# Altium integrated library Xilinx Spartan-3E.IntLib: 220 symbols (part 4 of 28)
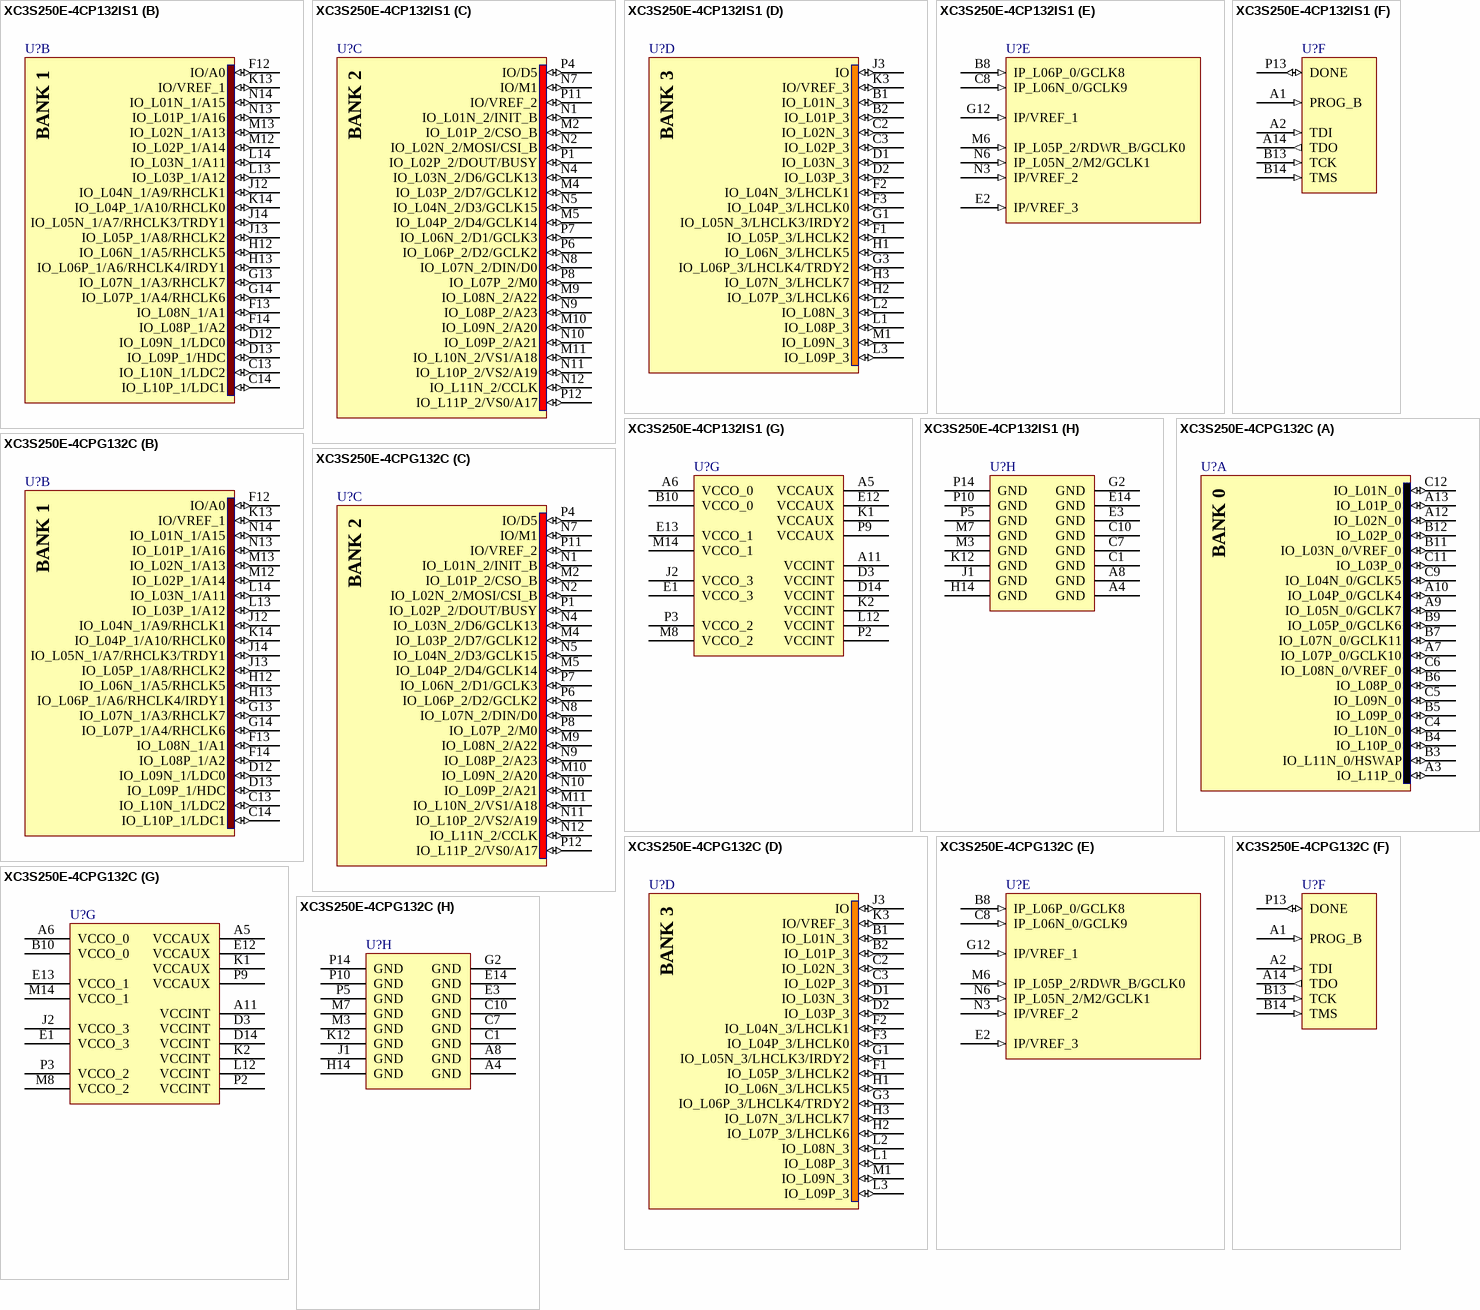
[diagram p197: symbols XC3S250E-4CP132IS1 to XC3S250E-4CPG132C]

## XC3S250E-4CPG132C
designator U?
Spartan-3E 1.2V FPGA, 92 User I/Os, 132-Ball Pb-Free Chip Scale BGA, Standard Performance, Commercial Grade; Published: 6-Jun-2005; LatestRevisionDate: 13-Apr-2006; LatestRevisionNote: IPC-7351 Footprint Added.; DatasheetVersion: 18-Apr-2008; PackageVersion: ver1.2, Jun-2004; PackageReference: CPG132; Publisher: Altium Limited; PackageDescription: 132-Ball Chip Scale Ball Grid Array 0.5 mm Pitch (CPG132) - Pb-Free; ComponentLink1Description: Manufacturer Link; ComponentLink1URL: http://www.xilinx.com/products/spartan3a/3a.htm; ComponentLink2Description: Datasheet; ComponentLink2URL: http://direct.xilinx.com/bvdocs/publications/ds312.pdf
footprint CPG132 (BGA, 132-Leads, Body 8x8mm, Pitch 0.5mm)
3D model XC3S250E-CP132 (132-Ball Chip Scale Ball Grid Array 0.5 mm Pitch (CPG132) - Pb-Free)
signal-integrity model XC3S250E_CPG132 (Spartan-3E)
part A pins: A3 IO_L11P_0 (io), A7 IO_L07P_0/GCLK10 (io), A9 IO_L05N_0/GCLK7 (io), A10 IO_L04P_0/GCLK4 (io), A12 IO_L02N_0 (io), A13 IO_L01P_0 (io), B3 IO_L11N_0/HSWAP (io), B4 IO_L10P_0 (io), B5 IO_L09P_0 (io), B6 IO_L08P_0 (io), B7 IO_L07N_0/GCLK11 (io), B9 IO_L05P_0/GCLK6 (io), B11 IO_L03N_0/VREF_0 (io), B12 IO_L02P_0 (io), C4 IO_L10N_0 (io), C5 IO_L09N_0 (io), C6 IO_L08N_0/VREF_0 (io), C9 IO_L04N_0/GCLK5 (io), C11 IO_L03P_0 (io), C12 IO_L01N_0 (io)
part B pins: C13 IO_L10N_1/LDC2 (io), C14 IO_L10P_1/LDC1 (io), D12 IO_L09N_1/LDC0 (io), D13 IO_L09P_1/HDC (io), F12 IO/A0 (io), F13 IO_L08N_1/A1 (io), F14 IO_L08P_1/A2 (io), G13 IO_L07N_1/A3/RHCLK7 (io), G14 IO_L07P_1/A4/RHCLK6 (io), H12 IO_L06N_1/A5/RHCLK5 (io), H13 IO_L06P_1/A6/RHCLK4/IRDY1 (io), J12 IO_L04N_1/A9/RHCLK1 (io), J13 IO_L05P_1/A8/RHCLK2 (io), J14 IO_L05N_1/A7/RHCLK3/TRDY1 (io), K13 IO/VREF_1 (io), K14 IO_L04P_1/A10/RHCLK0 (io), L13 IO_L03P_1/A12 (io), L14 IO_L03N_1/A11 (io), M12 IO_L02P_1/A14 (io), M13 IO_L02N_1/A13 (io), N13 IO_L01P_1/A16 (io), N14 IO_L01N_1/A15 (io)
part C pins: M2 IO_L01P_2/CSO_B (io), M4 IO_L03P_2/D7/GCLK12 (io), M5 IO_L04P_2/D4/GCLK14 (io), M9 IO_L08N_2/A22 (io), M10 IO_L09N_2/A20 (io), M11 IO_L10N_2/VS1/A18 (io), N1 IO_L01N_2/INIT_B (io), N2 IO_L02N_2/MOSI/CSI_B (io), N4 IO_L03N_2/D6/GCLK13 (io), N5 IO_L04N_2/D3/GCLK15 (io), N7 IO/M1 (io), N8 IO_L07N_2/DIN/D0 (io), N9 IO_L08P_2/A23 (io), N10 IO_L09P_2/A21 (io), N11 IO_L10P_2/VS2/A19 (io), N12 IO_L11N_2/CCLK (io), P1 IO_L02P_2/DOUT/BUSY (io), P4 IO/D5 (io), P6 IO_L06P_2/D2/GCLK2 (io), P7 IO_L06N_2/D1/GCLK3 (io), P8 IO_L07P_2/M0 (io), P11 IO/VREF_2 (io), P12 IO_L11P_2/VS0/A17 (io)
part D pins: B1 IO_L01N_3 (io), B2 IO_L01P_3 (io), C2 IO_L02N_3 (io), C3 IO_L02P_3 (io), D1 IO_L03N_3 (io), D2 IO_L03P_3 (io), F1 IO_L05P_3/LHCLK2 (io), F2 IO_L04N_3/LHCLK1 (io), F3 IO_L04P_3/LHCLK0 (io), G1 IO_L05N_3/LHCLK3/IRDY2 (io), G3 IO_L06P_3/LHCLK4/TRDY2 (io), H1 IO_L06N_3/LHCLK5 (io), H2 IO_L07P_3/LHCLK6 (io), H3 IO_L07N_3/LHCLK7 (io), J3 IO (io), K3 IO/VREF_3 (io), L1 IO_L08P_3 (io), L2 IO_L08N_3 (io), L3 IO_L09P_3 (io), M1 IO_L09N_3 (io)
part E pins: B8 IP_L06P_0/GCLK8 (in), C8 IP_L06N_0/GCLK9 (in), E2 IP/VREF_3 (in), G12 IP/VREF_1 (in), M6 IP_L05P_2/RDWR_B/GCLK0 (in), N3 IP/VREF_2 (in), N6 IP_L05N_2/M2/GCLK1 (in)
part F pins: A1 PROG_B (in), A2 TDI (in), A14 TDO (out), B13 TCK (in), B14 TMS (in), P13 DONE (io)
part G pins: A5 VCCAUX (power), A6 VCCO_0 (power), A11 VCCINT (power), B10 VCCO_0 (power), D3 VCCINT (power), D14 VCCINT (power), E1 VCCO_3 (power), E12 VCCAUX (power), E13 VCCO_1 (power), J2 VCCO_3 (power), K1 VCCAUX (power), K2 VCCINT (power), L12 VCCINT (power), M8 VCCO_2 (power), M14 VCCO_1 (power), P2 VCCINT (power), P3 VCCO_2 (power), P9 VCCAUX (power)
part H pins: A4 GND (power), A8 GND (power), C1 GND (power), C7 GND (power), C10 GND (power), E3 GND (power), E14 GND (power), G2 GND (power), H14 GND (power), J1 GND (power), K12 GND (power), M3 GND (power), M7 GND (power), P5 GND (power), P10 GND (power), P14 GND (power)
part A text: BANK 0
part B text: BANK 1
part C text: BANK 2
part D text: BANK 3

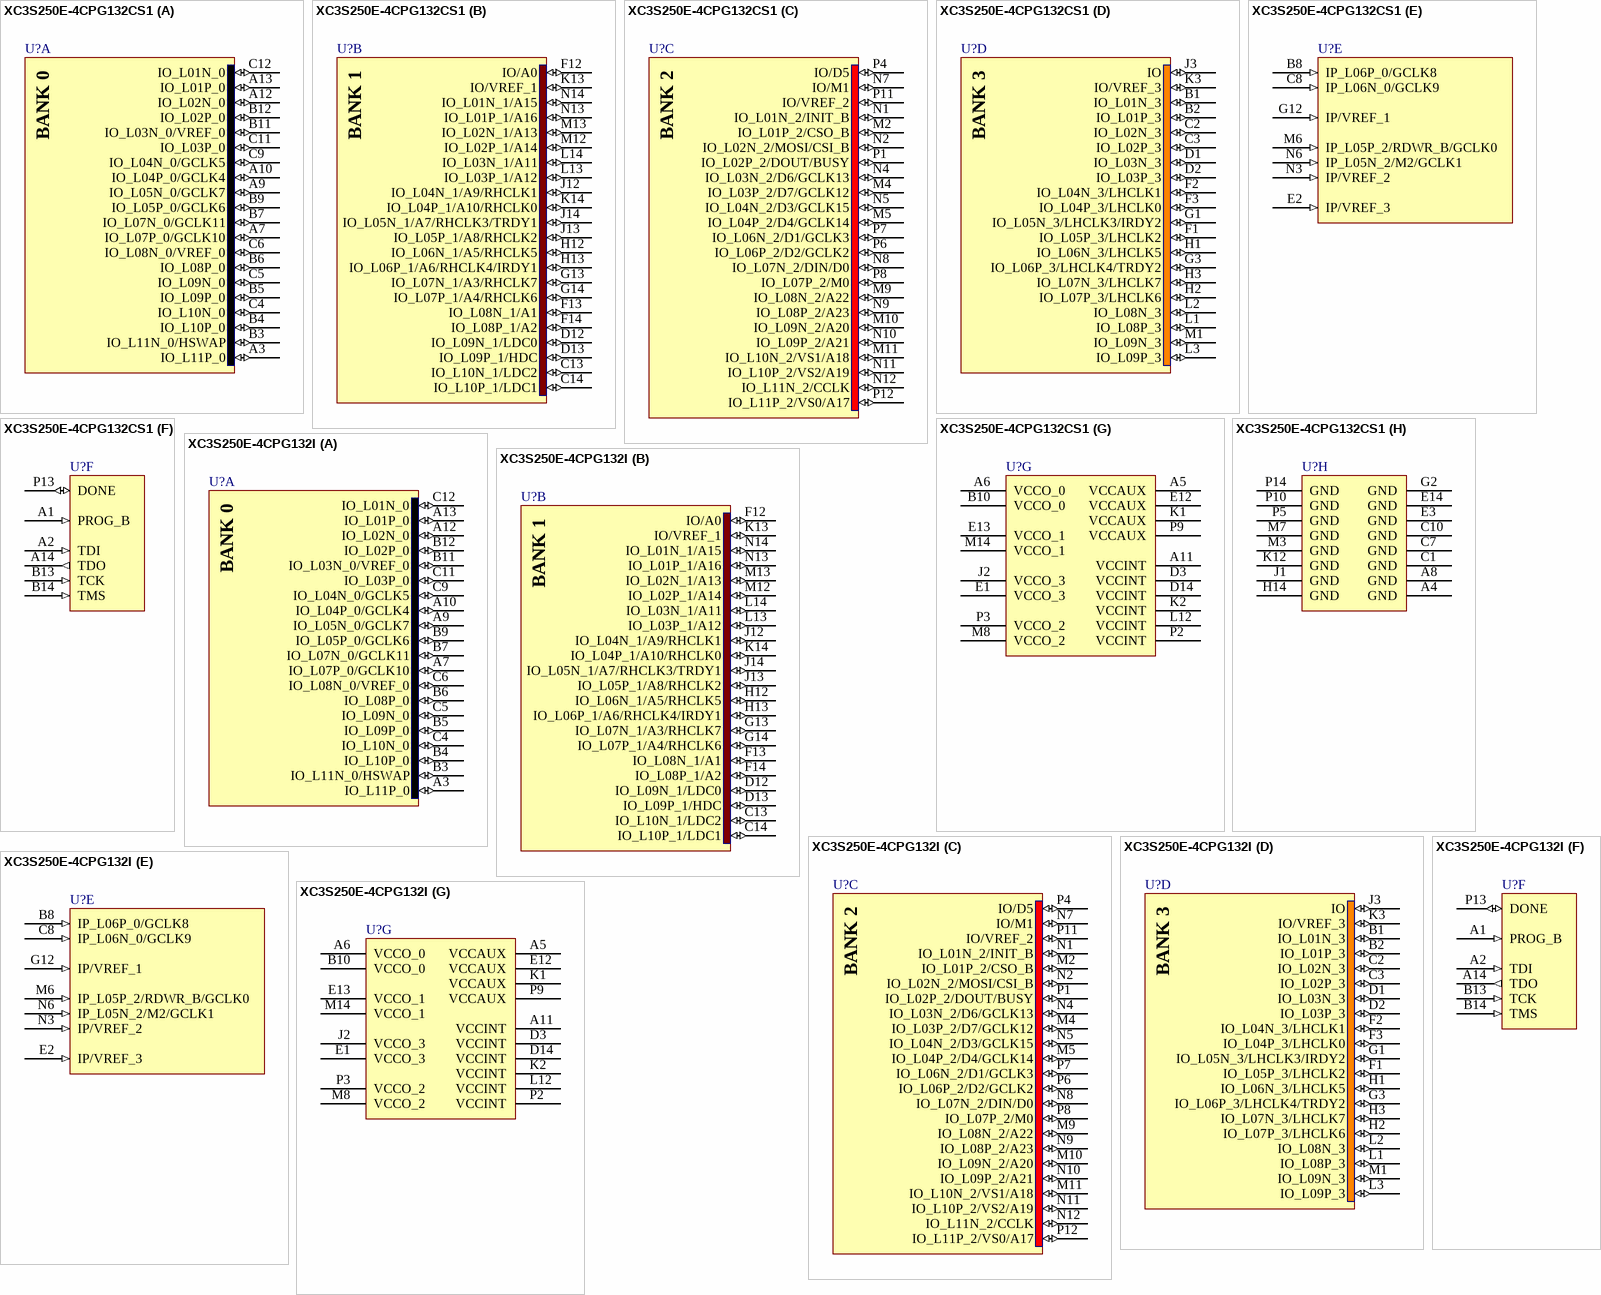
[diagram p19: symbols XC3S250E-4CPG132CS1 to XC3S250E-4CPG132I]

## XC3S250E-4CPG132CS1
designator U?
Spartan-3E 1.2V FPGA, 92 User I/Os, 132-Ball Pb-Free Chip Scale BGA, Standard Performance, Commercial Grade, Stepping 1; Published: 14-May-2007; DatasheetVersion: 18-Apr-2008; PackageVersion: ver1.2, Jun-2004; PackageReference: CPG132; Publisher: Altium Limited; PackageDescription: 132-Ball Chip Scale Ball Grid Array 0.5 mm Pitch (CPG132) - Pb-Free; ComponentLink1Description: Manufacturer Link; ComponentLink1URL: http://www.xilinx.com/products/spartan3a/3a.htm; ComponentLink2Description: Datasheet; ComponentLink2URL: http://direct.xilinx.com/bvdocs/publications/ds312.pdf
footprint CPG132 (BGA, 132-Leads, Body 8x8mm, Pitch 0.5mm)
3D model XC3S250E-CP132 (132-Ball Chip Scale Ball Grid Array 0.5 mm Pitch (CPG132) - Pb-Free)
signal-integrity model XC3S250E_CPG132 (Spartan-3E)
part A pins: A3 IO_L11P_0 (io), A7 IO_L07P_0/GCLK10 (io), A9 IO_L05N_0/GCLK7 (io), A10 IO_L04P_0/GCLK4 (io), A12 IO_L02N_0 (io), A13 IO_L01P_0 (io), B3 IO_L11N_0/HSWAP (io), B4 IO_L10P_0 (io), B5 IO_L09P_0 (io), B6 IO_L08P_0 (io), B7 IO_L07N_0/GCLK11 (io), B9 IO_L05P_0/GCLK6 (io), B11 IO_L03N_0/VREF_0 (io), B12 IO_L02P_0 (io), C4 IO_L10N_0 (io), C5 IO_L09N_0 (io), C6 IO_L08N_0/VREF_0 (io), C9 IO_L04N_0/GCLK5 (io), C11 IO_L03P_0 (io), C12 IO_L01N_0 (io)
part B pins: C13 IO_L10N_1/LDC2 (io), C14 IO_L10P_1/LDC1 (io), D12 IO_L09N_1/LDC0 (io), D13 IO_L09P_1/HDC (io), F12 IO/A0 (io), F13 IO_L08N_1/A1 (io), F14 IO_L08P_1/A2 (io), G13 IO_L07N_1/A3/RHCLK7 (io), G14 IO_L07P_1/A4/RHCLK6 (io), H12 IO_L06N_1/A5/RHCLK5 (io), H13 IO_L06P_1/A6/RHCLK4/IRDY1 (io), J12 IO_L04N_1/A9/RHCLK1 (io), J13 IO_L05P_1/A8/RHCLK2 (io), J14 IO_L05N_1/A7/RHCLK3/TRDY1 (io), K13 IO/VREF_1 (io), K14 IO_L04P_1/A10/RHCLK0 (io), L13 IO_L03P_1/A12 (io), L14 IO_L03N_1/A11 (io), M12 IO_L02P_1/A14 (io), M13 IO_L02N_1/A13 (io), N13 IO_L01P_1/A16 (io), N14 IO_L01N_1/A15 (io)
part C pins: M2 IO_L01P_2/CSO_B (io), M4 IO_L03P_2/D7/GCLK12 (io), M5 IO_L04P_2/D4/GCLK14 (io), M9 IO_L08N_2/A22 (io), M10 IO_L09N_2/A20 (io), M11 IO_L10N_2/VS1/A18 (io), N1 IO_L01N_2/INIT_B (io), N2 IO_L02N_2/MOSI/CSI_B (io), N4 IO_L03N_2/D6/GCLK13 (io), N5 IO_L04N_2/D3/GCLK15 (io), N7 IO/M1 (io), N8 IO_L07N_2/DIN/D0 (io), N9 IO_L08P_2/A23 (io), N10 IO_L09P_2/A21 (io), N11 IO_L10P_2/VS2/A19 (io), N12 IO_L11N_2/CCLK (io), P1 IO_L02P_2/DOUT/BUSY (io), P4 IO/D5 (io), P6 IO_L06P_2/D2/GCLK2 (io), P7 IO_L06N_2/D1/GCLK3 (io), P8 IO_L07P_2/M0 (io), P11 IO/VREF_2 (io), P12 IO_L11P_2/VS0/A17 (io)
part D pins: B1 IO_L01N_3 (io), B2 IO_L01P_3 (io), C2 IO_L02N_3 (io), C3 IO_L02P_3 (io), D1 IO_L03N_3 (io), D2 IO_L03P_3 (io), F1 IO_L05P_3/LHCLK2 (io), F2 IO_L04N_3/LHCLK1 (io), F3 IO_L04P_3/LHCLK0 (io), G1 IO_L05N_3/LHCLK3/IRDY2 (io), G3 IO_L06P_3/LHCLK4/TRDY2 (io), H1 IO_L06N_3/LHCLK5 (io), H2 IO_L07P_3/LHCLK6 (io), H3 IO_L07N_3/LHCLK7 (io), J3 IO (io), K3 IO/VREF_3 (io), L1 IO_L08P_3 (io), L2 IO_L08N_3 (io), L3 IO_L09P_3 (io), M1 IO_L09N_3 (io)
part E pins: B8 IP_L06P_0/GCLK8 (in), C8 IP_L06N_0/GCLK9 (in), E2 IP/VREF_3 (in), G12 IP/VREF_1 (in), M6 IP_L05P_2/RDWR_B/GCLK0 (in), N3 IP/VREF_2 (in), N6 IP_L05N_2/M2/GCLK1 (in)
part F pins: A1 PROG_B (in), A2 TDI (in), A14 TDO (out), B13 TCK (in), B14 TMS (in), P13 DONE (io)
part G pins: A5 VCCAUX (power), A6 VCCO_0 (power), A11 VCCINT (power), B10 VCCO_0 (power), D3 VCCINT (power), D14 VCCINT (power), E1 VCCO_3 (power), E12 VCCAUX (power), E13 VCCO_1 (power), J2 VCCO_3 (power), K1 VCCAUX (power), K2 VCCINT (power), L12 VCCINT (power), M8 VCCO_2 (power), M14 VCCO_1 (power), P2 VCCINT (power), P3 VCCO_2 (power), P9 VCCAUX (power)
part H pins: A4 GND (power), A8 GND (power), C1 GND (power), C7 GND (power), C10 GND (power), E3 GND (power), E14 GND (power), G2 GND (power), H14 GND (power), J1 GND (power), K12 GND (power), M3 GND (power), M7 GND (power), P5 GND (power), P10 GND (power), P14 GND (power)
part A text: BANK 0
part B text: BANK 1
part C text: BANK 2
part D text: BANK 3

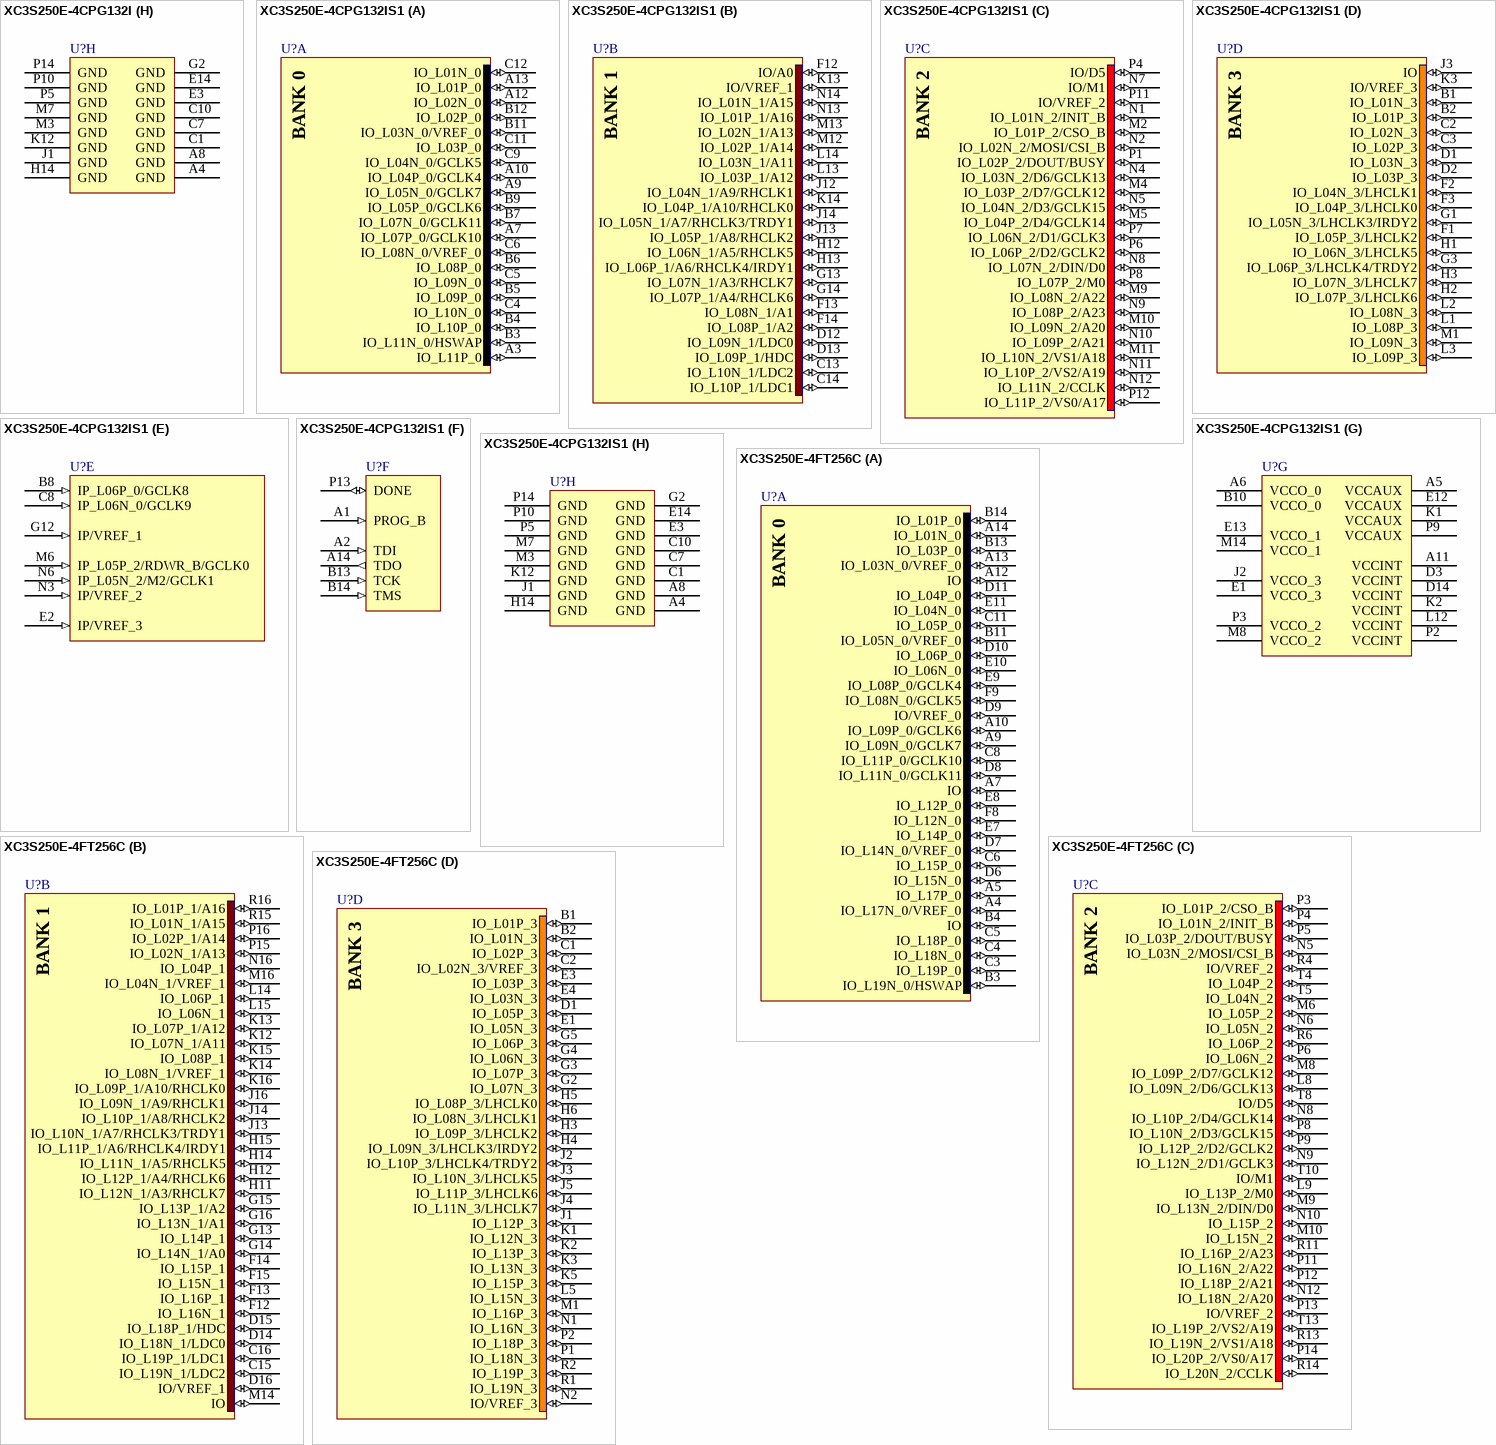
[diagram p20: symbols XC3S250E-4CPG132I to XC3S250E-4FT256C]

## XC3S250E-4CPG132I
designator U?
Spartan-3E 1.2V FPGA, 92 User I/Os, 132-Ball Pb-Free Chip Scale BGA, Standard Performance, Industrial Grade; Published: 6-Jun-2005; LatestRevisionDate: 13-Apr-2006; LatestRevisionNote: IPC-7351 Footprint Added.; DatasheetVersion: 18-Apr-2008; PackageVersion: ver1.2, Jun-2004; PackageReference: CPG132; Publisher: Altium Limited; PackageDescription: 132-Ball Chip Scale Ball Grid Array 0.5 mm Pitch (CPG132) - Pb-Free; ComponentLink1Description: Manufacturer Link; ComponentLink1URL: http://www.xilinx.com/products/spartan3a/3a.htm; ComponentLink2Description: Datasheet; ComponentLink2URL: http://direct.xilinx.com/bvdocs/publications/ds312.pdf
footprint CPG132 (BGA, 132-Leads, Body 8x8mm, Pitch 0.5mm)
3D model XC3S250E-CP132 (132-Ball Chip Scale Ball Grid Array 0.5 mm Pitch (CPG132) - Pb-Free)
signal-integrity model XC3S250E_CPG132 (Spartan-3E)
part A pins: A3 IO_L11P_0 (io), A7 IO_L07P_0/GCLK10 (io), A9 IO_L05N_0/GCLK7 (io), A10 IO_L04P_0/GCLK4 (io), A12 IO_L02N_0 (io), A13 IO_L01P_0 (io), B3 IO_L11N_0/HSWAP (io), B4 IO_L10P_0 (io), B5 IO_L09P_0 (io), B6 IO_L08P_0 (io), B7 IO_L07N_0/GCLK11 (io), B9 IO_L05P_0/GCLK6 (io), B11 IO_L03N_0/VREF_0 (io), B12 IO_L02P_0 (io), C4 IO_L10N_0 (io), C5 IO_L09N_0 (io), C6 IO_L08N_0/VREF_0 (io), C9 IO_L04N_0/GCLK5 (io), C11 IO_L03P_0 (io), C12 IO_L01N_0 (io)
part B pins: C13 IO_L10N_1/LDC2 (io), C14 IO_L10P_1/LDC1 (io), D12 IO_L09N_1/LDC0 (io), D13 IO_L09P_1/HDC (io), F12 IO/A0 (io), F13 IO_L08N_1/A1 (io), F14 IO_L08P_1/A2 (io), G13 IO_L07N_1/A3/RHCLK7 (io), G14 IO_L07P_1/A4/RHCLK6 (io), H12 IO_L06N_1/A5/RHCLK5 (io), H13 IO_L06P_1/A6/RHCLK4/IRDY1 (io), J12 IO_L04N_1/A9/RHCLK1 (io), J13 IO_L05P_1/A8/RHCLK2 (io), J14 IO_L05N_1/A7/RHCLK3/TRDY1 (io), K13 IO/VREF_1 (io), K14 IO_L04P_1/A10/RHCLK0 (io), L13 IO_L03P_1/A12 (io), L14 IO_L03N_1/A11 (io), M12 IO_L02P_1/A14 (io), M13 IO_L02N_1/A13 (io), N13 IO_L01P_1/A16 (io), N14 IO_L01N_1/A15 (io)
part C pins: M2 IO_L01P_2/CSO_B (io), M4 IO_L03P_2/D7/GCLK12 (io), M5 IO_L04P_2/D4/GCLK14 (io), M9 IO_L08N_2/A22 (io), M10 IO_L09N_2/A20 (io), M11 IO_L10N_2/VS1/A18 (io), N1 IO_L01N_2/INIT_B (io), N2 IO_L02N_2/MOSI/CSI_B (io), N4 IO_L03N_2/D6/GCLK13 (io), N5 IO_L04N_2/D3/GCLK15 (io), N7 IO/M1 (io), N8 IO_L07N_2/DIN/D0 (io), N9 IO_L08P_2/A23 (io), N10 IO_L09P_2/A21 (io), N11 IO_L10P_2/VS2/A19 (io), N12 IO_L11N_2/CCLK (io), P1 IO_L02P_2/DOUT/BUSY (io), P4 IO/D5 (io), P6 IO_L06P_2/D2/GCLK2 (io), P7 IO_L06N_2/D1/GCLK3 (io), P8 IO_L07P_2/M0 (io), P11 IO/VREF_2 (io), P12 IO_L11P_2/VS0/A17 (io)
part D pins: B1 IO_L01N_3 (io), B2 IO_L01P_3 (io), C2 IO_L02N_3 (io), C3 IO_L02P_3 (io), D1 IO_L03N_3 (io), D2 IO_L03P_3 (io), F1 IO_L05P_3/LHCLK2 (io), F2 IO_L04N_3/LHCLK1 (io), F3 IO_L04P_3/LHCLK0 (io), G1 IO_L05N_3/LHCLK3/IRDY2 (io), G3 IO_L06P_3/LHCLK4/TRDY2 (io), H1 IO_L06N_3/LHCLK5 (io), H2 IO_L07P_3/LHCLK6 (io), H3 IO_L07N_3/LHCLK7 (io), J3 IO (io), K3 IO/VREF_3 (io), L1 IO_L08P_3 (io), L2 IO_L08N_3 (io), L3 IO_L09P_3 (io), M1 IO_L09N_3 (io)
part E pins: B8 IP_L06P_0/GCLK8 (in), C8 IP_L06N_0/GCLK9 (in), E2 IP/VREF_3 (in), G12 IP/VREF_1 (in), M6 IP_L05P_2/RDWR_B/GCLK0 (in), N3 IP/VREF_2 (in), N6 IP_L05N_2/M2/GCLK1 (in)
part F pins: A1 PROG_B (in), A2 TDI (in), A14 TDO (out), B13 TCK (in), B14 TMS (in), P13 DONE (io)
part G pins: A5 VCCAUX (power), A6 VCCO_0 (power), A11 VCCINT (power), B10 VCCO_0 (power), D3 VCCINT (power), D14 VCCINT (power), E1 VCCO_3 (power), E12 VCCAUX (power), E13 VCCO_1 (power), J2 VCCO_3 (power), K1 VCCAUX (power), K2 VCCINT (power), L12 VCCINT (power), M8 VCCO_2 (power), M14 VCCO_1 (power), P2 VCCINT (power), P3 VCCO_2 (power), P9 VCCAUX (power)
part H pins: A4 GND (power), A8 GND (power), C1 GND (power), C7 GND (power), C10 GND (power), E3 GND (power), E14 GND (power), G2 GND (power), H14 GND (power), J1 GND (power), K12 GND (power), M3 GND (power), M7 GND (power), P5 GND (power), P10 GND (power), P14 GND (power)
part A text: BANK 0
part B text: BANK 1
part C text: BANK 2
part D text: BANK 3

## XC3S250E-4CPG132IS1
designator U?
Spartan-3E 1.2V FPGA, 92 User I/Os, 132-Ball Pb-Free Chip Scale BGA, Standard Performance, Industrial Grade, Stepping 1; Published: 14-May-2007; DatasheetVersion: 18-Apr-2008; PackageVersion: ver1.2, Jun-2004; PackageReference: CPG132; Publisher: Altium Limited; PackageDescription: 132-Ball Chip Scale Ball Grid Array 0.5 mm Pitch (CPG132) - Pb-Free; ComponentLink1Description: Manufacturer Link; ComponentLink1URL: http://www.xilinx.com/products/spartan3a/3a.htm; ComponentLink2Description: Datasheet; ComponentLink2URL: http://direct.xilinx.com/bvdocs/publications/ds312.pdf
footprint CPG132 (BGA, 132-Leads, Body 8x8mm, Pitch 0.5mm)
3D model XC3S250E-CP132 (132-Ball Chip Scale Ball Grid Array 0.5 mm Pitch (CPG132) - Pb-Free)
signal-integrity model XC3S250E_CPG132 (Spartan-3E)
part A pins: A3 IO_L11P_0 (io), A7 IO_L07P_0/GCLK10 (io), A9 IO_L05N_0/GCLK7 (io), A10 IO_L04P_0/GCLK4 (io), A12 IO_L02N_0 (io), A13 IO_L01P_0 (io), B3 IO_L11N_0/HSWAP (io), B4 IO_L10P_0 (io), B5 IO_L09P_0 (io), B6 IO_L08P_0 (io), B7 IO_L07N_0/GCLK11 (io), B9 IO_L05P_0/GCLK6 (io), B11 IO_L03N_0/VREF_0 (io), B12 IO_L02P_0 (io), C4 IO_L10N_0 (io), C5 IO_L09N_0 (io), C6 IO_L08N_0/VREF_0 (io), C9 IO_L04N_0/GCLK5 (io), C11 IO_L03P_0 (io), C12 IO_L01N_0 (io)
part B pins: C13 IO_L10N_1/LDC2 (io), C14 IO_L10P_1/LDC1 (io), D12 IO_L09N_1/LDC0 (io), D13 IO_L09P_1/HDC (io), F12 IO/A0 (io), F13 IO_L08N_1/A1 (io), F14 IO_L08P_1/A2 (io), G13 IO_L07N_1/A3/RHCLK7 (io), G14 IO_L07P_1/A4/RHCLK6 (io), H12 IO_L06N_1/A5/RHCLK5 (io), H13 IO_L06P_1/A6/RHCLK4/IRDY1 (io), J12 IO_L04N_1/A9/RHCLK1 (io), J13 IO_L05P_1/A8/RHCLK2 (io), J14 IO_L05N_1/A7/RHCLK3/TRDY1 (io), K13 IO/VREF_1 (io), K14 IO_L04P_1/A10/RHCLK0 (io), L13 IO_L03P_1/A12 (io), L14 IO_L03N_1/A11 (io), M12 IO_L02P_1/A14 (io), M13 IO_L02N_1/A13 (io), N13 IO_L01P_1/A16 (io), N14 IO_L01N_1/A15 (io)
part C pins: M2 IO_L01P_2/CSO_B (io), M4 IO_L03P_2/D7/GCLK12 (io), M5 IO_L04P_2/D4/GCLK14 (io), M9 IO_L08N_2/A22 (io), M10 IO_L09N_2/A20 (io), M11 IO_L10N_2/VS1/A18 (io), N1 IO_L01N_2/INIT_B (io), N2 IO_L02N_2/MOSI/CSI_B (io), N4 IO_L03N_2/D6/GCLK13 (io), N5 IO_L04N_2/D3/GCLK15 (io), N7 IO/M1 (io), N8 IO_L07N_2/DIN/D0 (io), N9 IO_L08P_2/A23 (io), N10 IO_L09P_2/A21 (io), N11 IO_L10P_2/VS2/A19 (io), N12 IO_L11N_2/CCLK (io), P1 IO_L02P_2/DOUT/BUSY (io), P4 IO/D5 (io), P6 IO_L06P_2/D2/GCLK2 (io), P7 IO_L06N_2/D1/GCLK3 (io), P8 IO_L07P_2/M0 (io), P11 IO/VREF_2 (io), P12 IO_L11P_2/VS0/A17 (io)
part D pins: B1 IO_L01N_3 (io), B2 IO_L01P_3 (io), C2 IO_L02N_3 (io), C3 IO_L02P_3 (io), D1 IO_L03N_3 (io), D2 IO_L03P_3 (io), F1 IO_L05P_3/LHCLK2 (io), F2 IO_L04N_3/LHCLK1 (io), F3 IO_L04P_3/LHCLK0 (io), G1 IO_L05N_3/LHCLK3/IRDY2 (io), G3 IO_L06P_3/LHCLK4/TRDY2 (io), H1 IO_L06N_3/LHCLK5 (io), H2 IO_L07P_3/LHCLK6 (io), H3 IO_L07N_3/LHCLK7 (io), J3 IO (io), K3 IO/VREF_3 (io), L1 IO_L08P_3 (io), L2 IO_L08N_3 (io), L3 IO_L09P_3 (io), M1 IO_L09N_3 (io)
part E pins: B8 IP_L06P_0/GCLK8 (in), C8 IP_L06N_0/GCLK9 (in), E2 IP/VREF_3 (in), G12 IP/VREF_1 (in), M6 IP_L05P_2/RDWR_B/GCLK0 (in), N3 IP/VREF_2 (in), N6 IP_L05N_2/M2/GCLK1 (in)
part F pins: A1 PROG_B (in), A2 TDI (in), A14 TDO (out), B13 TCK (in), B14 TMS (in), P13 DONE (io)
part G pins: A5 VCCAUX (power), A6 VCCO_0 (power), A11 VCCINT (power), B10 VCCO_0 (power), D3 VCCINT (power), D14 VCCINT (power), E1 VCCO_3 (power), E12 VCCAUX (power), E13 VCCO_1 (power), J2 VCCO_3 (power), K1 VCCAUX (power), K2 VCCINT (power), L12 VCCINT (power), M8 VCCO_2 (power), M14 VCCO_1 (power), P2 VCCINT (power), P3 VCCO_2 (power), P9 VCCAUX (power)
part H pins: A4 GND (power), A8 GND (power), C1 GND (power), C7 GND (power), C10 GND (power), E3 GND (power), E14 GND (power), G2 GND (power), H14 GND (power), J1 GND (power), K12 GND (power), M3 GND (power), M7 GND (power), P5 GND (power), P10 GND (power), P14 GND (power)
part A text: BANK 0
part B text: BANK 1
part C text: BANK 2
part D text: BANK 3

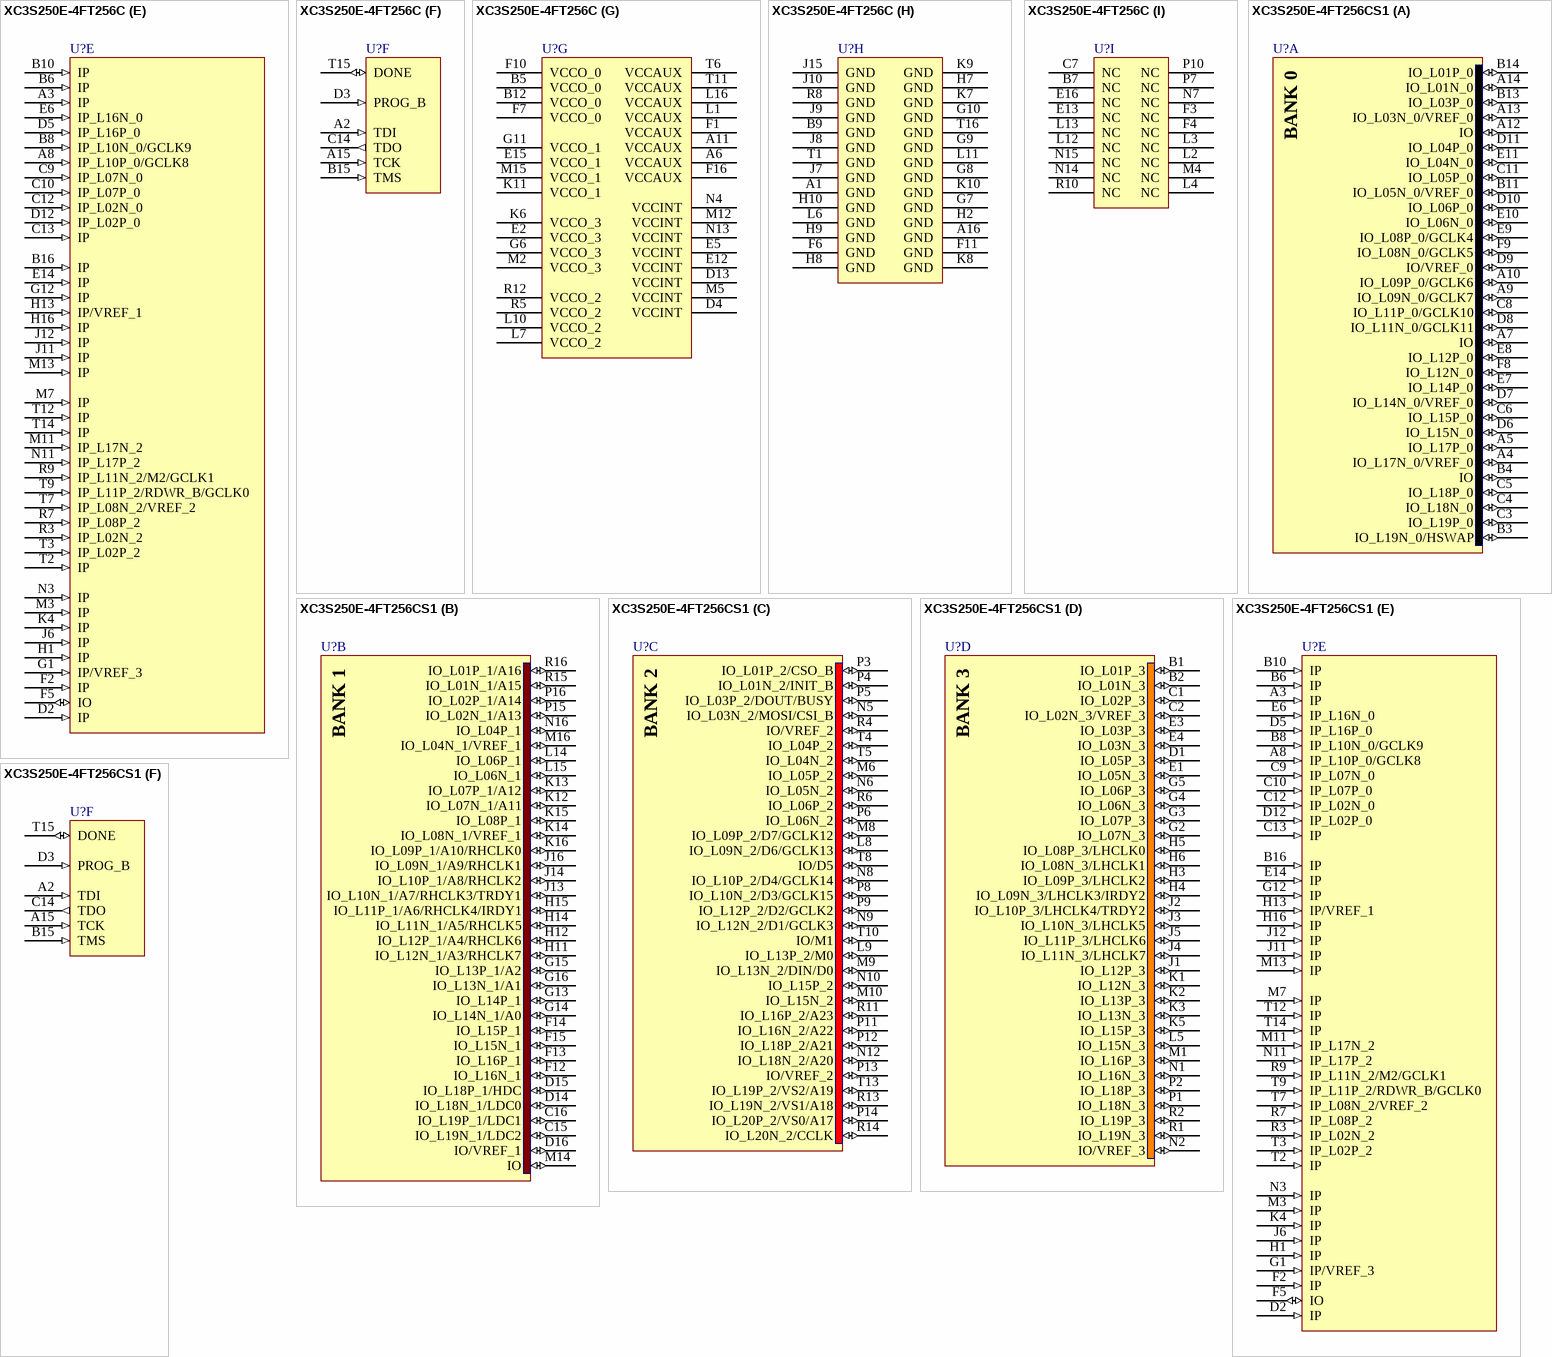
[diagram p21: symbols XC3S250E-4FT256C to XC3S250E-4FT256CS1]

## XC3S250E-4FT256C
designator U?
Spartan-3E 1.2V FPGA, 172 User I/Os, 256-Ball FTBGA, Standard Performance, Commercial Grade; Published: 6-Jun-2005; LatestRevisionDate: 13-Apr-2006; LatestRevisionNote: IPC-7351 Footprint Added.; DatasheetVersion: 18-Apr-2008; PackageVersion: ver1.3, Oct-2007; PackageReference: FT256; Publisher: Altium Limited; PackageDescription: 256-Ball Fine Pitch Thin Ball Grid Array 1.00 mm Pitch (FT256); Code_JEDEC: MS-034-AAF-1*; ComponentLink1Description: Manufacturer Link; ComponentLink1URL: http://www.xilinx.com/products/spartan3a/3a.htm; ComponentLink2Description: Datasheet; ComponentLink2URL: http://direct.xilinx.com/bvdocs/publications/ds312.pdf
footprint FT256 (BGA, 256-Leads, Body 17x17mm, Pitch 1mm)
3D model XC3S250E-FT256 (256-Ball Fine Pitch Thin Ball Grid Array 1.00 mm Pitch (FT256))
signal-integrity model XC3S250E_FT256 (Spartan-3E)
part A pins: A4 IO_L17N_0/VREF_0 (io), A5 IO_L17P_0 (io), A7 IO (io), A9 IO_L09N_0/GCLK7 (io), A10 IO_L09P_0/GCLK6 (io), A12 IO (io), A13 IO_L03N_0/VREF_0 (io), A14 IO_L01N_0 (io), B3 IO_L19N_0/HSWAP (io), B4 IO (io), B11 IO_L05N_0/VREF_0 (io), B13 IO_L03P_0 (io), B14 IO_L01P_0 (io), C3 IO_L19P_0 (io), C4 IO_L18N_0 (io), C5 IO_L18P_0 (io), C6 IO_L15P_0 (io), C8 IO_L11P_0/GCLK10 (io), C11 IO_L05P_0 (io), D6 IO_L15N_0 (io), D7 IO_L14N_0/VREF_0 (io), D8 IO_L11N_0/GCLK11 (io), D9 IO/VREF_0 (io), D10 IO_L06P_0 (io), D11 IO_L04P_0 (io), E7 IO_L14P_0 (io), E8 IO_L12P_0 (io), E9 IO_L08P_0/GCLK4 (io), E10 IO_L06N_0 (io), E11 IO_L04N_0 (io), F8 IO_L12N_0 (io), F9 IO_L08N_0/GCLK5 (io)
part B pins: C15 IO_L19N_1/LDC2 (io), C16 IO_L19P_1/LDC1 (io), D14 IO_L18N_1/LDC0 (io), D15 IO_L18P_1/HDC (io), D16 IO/VREF_1 (io), F12 IO_L16N_1 (io), F13 IO_L16P_1 (io), F14 IO_L15P_1 (io), F15 IO_L15N_1 (io), G13 IO_L14P_1 (io), G14 IO_L14N_1/A0 (io), G15 IO_L13P_1/A2 (io), G16 IO_L13N_1/A1 (io), H11 IO_L12N_1/A3/RHCLK7 (io), H12 IO_L12P_1/A4/RHCLK6 (io), H14 IO_L11N_1/A5/RHCLK5 (io), H15 IO_L11P_1/A6/RHCLK4/IRDY1 (io), J13 IO_L10N_1/A7/RHCLK3/TRDY1 (io), J14 IO_L10P_1/A8/RHCLK2 (io), J16 IO_L09N_1/A9/RHCLK1 (io), K12 IO_L07N_1/A11 (io), K13 IO_L07P_1/A12 (io), K14 IO_L08N_1/VREF_1 (io), K15 IO_L08P_1 (io), K16 IO_L09P_1/A10/RHCLK0 (io), L14 IO_L06P_1 (io), L15 IO_L06N_1 (io), M14 IO (io), M16 IO_L04N_1/VREF_1 (io), N16 IO_L04P_1 (io), P15 IO_L02N_1/A13 (io), P16 IO_L02P_1/A14 (io), R15 IO_L01N_1/A15 (io), R16 IO_L01P_1/A16 (io)
part C pins: L8 IO_L09N_2/D6/GCLK13 (io), L9 IO_L13P_2/M0 (io), M6 IO_L05P_2 (io), M8 IO_L09P_2/D7/GCLK12 (io), M9 IO_L13N_2/DIN/D0 (io), M10 IO_L15N_2 (io), N5 IO_L03N_2/MOSI/CSI_B (io), N6 IO_L05N_2 (io), N8 IO_L10P_2/D4/GCLK14 (io), N9 IO_L12N_2/D1/GCLK3 (io), N10 IO_L15P_2 (io), N12 IO_L18N_2/A20 (io), P3 IO_L01P_2/CSO_B (io), P4 IO_L01N_2/INIT_B (io), P5 IO_L03P_2/DOUT/BUSY (io), P6 IO_L06N_2 (io), P8 IO_L10N_2/D3/GCLK15 (io), P9 IO_L12P_2/D2/GCLK2 (io), P11 IO_L16N_2/A22 (io), P12 IO_L18P_2/A21 (io), P13 IO/VREF_2 (io), P14 IO_L20P_2/VS0/A17 (io), R4 IO/VREF_2 (io), R6 IO_L06P_2 (io), R11 IO_L16P_2/A23 (io), R13 IO_L19N_2/VS1/A18 (io), R14 IO_L20N_2/CCLK (io), T4 IO_L04P_2 (io), T5 IO_L04N_2 (io), T8 IO/D5 (io), T10 IO/M1 (io), T13 IO_L19P_2/VS2/A19 (io)
part D pins: B1 IO_L01P_3 (io), B2 IO_L01N_3 (io), C1 IO_L02P_3 (io), C2 IO_L02N_3/VREF_3 (io), D1 IO_L05P_3 (io), E1 IO_L05N_3 (io), E3 IO_L03P_3 (io), E4 IO_L03N_3 (io), G2 IO_L07N_3 (io), G3 IO_L07P_3 (io), G4 IO_L06N_3 (io), G5 IO_L06P_3 (io), H3 IO_L09P_3/LHCLK2 (io), H4 IO_L09N_3/LHCLK3/IRDY2 (io), H5 IO_L08P_3/LHCLK0 (io), H6 IO_L08N_3/LHCLK1 (io), J1 IO_L12P_3 (io), J2 IO_L10P_3/LHCLK4/TRDY2 (io), J3 IO_L10N_3/LHCLK5 (io), J4 IO_L11N_3/LHCLK7 (io), J5 IO_L11P_3/LHCLK6 (io), K1 IO_L12N_3 (io), K2 IO_L13P_3 (io), K3 IO_L13N_3 (io), K5 IO_L15P_3 (io), L5 IO_L15N_3 (io), M1 IO_L16P_3 (io), N1 IO_L16N_3 (io), N2 IO/VREF_3 (io), P1 IO_L18N_3 (io), P2 IO_L18P_3 (io), R1 IO_L19N_3 (io), R2 IO_L19P_3 (io)
part E pins: A3 IP (in), A8 IP_L10P_0/GCLK8 (in), B6 IP (in), B8 IP_L10N_0/GCLK9 (in), B10 IP (in), B16 IP (in), C9 IP_L07N_0 (in), C10 IP_L07P_0 (in), C12 IP_L02N_0 (in), C13 IP (in), D2 IP (in), D5 IP_L16P_0 (in), D12 IP_L02P_0 (in), E6 IP_L16N_0 (in), E14 IP (in), F2 IP (in), F5 IO (io), G1 IP/VREF_3 (in), G12 IP (in), H1 IP (in), H13 IP/VREF_1 (in), H16 IP (in), J6 IP (in), J11 IP (in), J12 IP (in), K4 IP (in), M3 IP (in), M7 IP (in), M11 IP_L17N_2 (in), M13 IP (in), N3 IP (in), N11 IP_L17P_2 (in), R3 IP_L02N_2 (in), R7 IP_L08P_2 (in), R9 IP_L11N_2/M2/GCLK1 (in), T2 IP (in), T3 IP_L02P_2 (in), T7 IP_L08N_2/VREF_2 (in), T9 IP_L11P_2/RDWR_B/GCLK0 (in), T12 IP (in), T14 IP (in)
part F pins: A2 TDI (in), A15 TCK (in), B15 TMS (in), C14 TDO (out), D3 PROG_B (in), T15 DONE (io)
part G pins: A6 VCCAUX (power), A11 VCCAUX (power), B5 VCCO_0 (power), B12 VCCO_0 (power), D4 VCCINT (power), D13 VCCINT (power), E2 VCCO_3 (power), E5 VCCINT (power), E12 VCCINT (power), E15 VCCO_1 (power), F1 VCCAUX (power), F7 VCCO_0 (power), F10 VCCO_0 (power), F16 VCCAUX (power), G6 VCCO_3 (power), G11 VCCO_1 (power), K6 VCCO_3 (power), K11 VCCO_1 (power), L1 VCCAUX (power), L7 VCCO_2 (power), L10 VCCO_2 (power), L16 VCCAUX (power), M2 VCCO_3 (power), M5 VCCINT (power), M12 VCCINT (power), M15 VCCO_1 (power), N4 VCCINT (power), N13 VCCINT (power), R5 VCCO_2 (power), R12 VCCO_2 (power), T6 VCCAUX (power), T11 VCCAUX (power)
part H pins: A1 GND (power), A16 GND (power), B9 GND (power), F6 GND (power), F11 GND (power), G7 GND (power), G8 GND (power), G9 GND (power), G10 GND (power), H2 GND (power), H7 GND (power), H8 GND (power), H9 GND (power), H10 GND (power), J7 GND (power), J8 GND (power), J9 GND (power), J10 GND (power), J15 GND (power), K7 GND (power), K8 GND (power), K9 GND (power), K10 GND (power), L6 GND (power), L11 GND (power), R8 GND (power), T1 GND (power), T16 GND (power)
part I pins: B7 NC, C7 NC, E13 NC, E16 NC, F3 NC, F4 NC, L2 NC, L3 NC, L4 NC, L12 NC, L13 NC, M4 NC, N7 NC, N14 NC, N15 NC, P7 NC, P10 NC, R10 NC
part A text: BANK 0
part B text: BANK 1
part C text: BANK 2
part D text: BANK 3

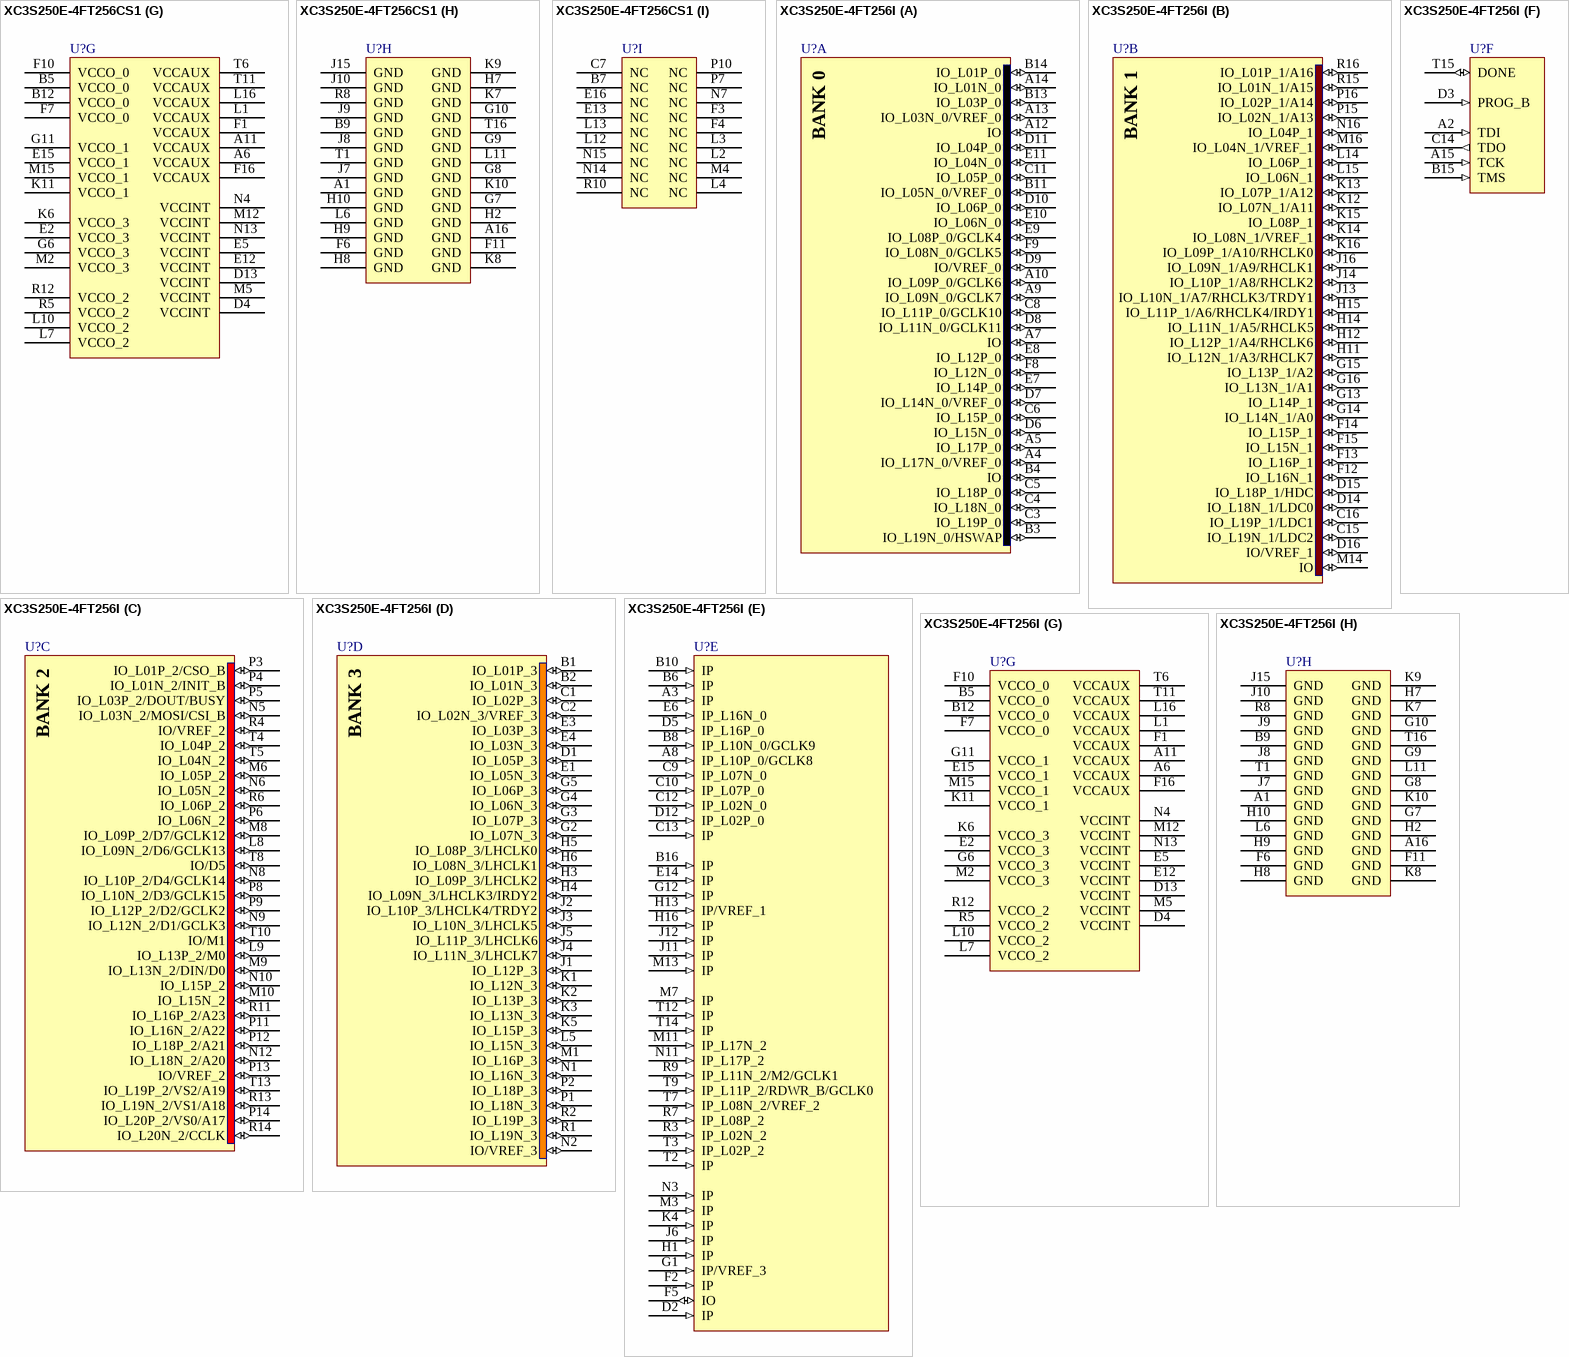
[diagram p22: symbols XC3S250E-4FT256CS1 to XC3S250E-4FT256I]

## XC3S250E-4FT256CS1
designator U?
Spartan-3E 1.2V FPGA, 172 User I/Os, 256-Ball FTBGA, Standard Performance, Commercial Grade, Stepping 1; Published: 14-May-2007; DatasheetVersion: 18-Apr-2008; PackageVersion: ver1.3, Oct-2007; PackageReference: FT256; Publisher: Altium Limited; PackageDescription: 256-Ball Fine Pitch Thin Ball Grid Array 1.00 mm Pitch (FT256); Code_JEDEC: MS-034-AAF-1*; ComponentLink1Description: Manufacturer Link; ComponentLink1URL: http://www.xilinx.com/products/spartan3a/3a.htm; ComponentLink2Description: Datasheet; ComponentLink2URL: http://direct.xilinx.com/bvdocs/publications/ds312.pdf
footprint FT256 (BGA, 256-Leads, Body 17x17mm, Pitch 1mm)
3D model XC3S250E-FT256 (256-Ball Fine Pitch Thin Ball Grid Array 1.00 mm Pitch (FT256))
signal-integrity model XC3S250E_FT256 (Spartan-3E)
part A pins: A4 IO_L17N_0/VREF_0 (io), A5 IO_L17P_0 (io), A7 IO (io), A9 IO_L09N_0/GCLK7 (io), A10 IO_L09P_0/GCLK6 (io), A12 IO (io), A13 IO_L03N_0/VREF_0 (io), A14 IO_L01N_0 (io), B3 IO_L19N_0/HSWAP (io), B4 IO (io), B11 IO_L05N_0/VREF_0 (io), B13 IO_L03P_0 (io), B14 IO_L01P_0 (io), C3 IO_L19P_0 (io), C4 IO_L18N_0 (io), C5 IO_L18P_0 (io), C6 IO_L15P_0 (io), C8 IO_L11P_0/GCLK10 (io), C11 IO_L05P_0 (io), D6 IO_L15N_0 (io), D7 IO_L14N_0/VREF_0 (io), D8 IO_L11N_0/GCLK11 (io), D9 IO/VREF_0 (io), D10 IO_L06P_0 (io), D11 IO_L04P_0 (io), E7 IO_L14P_0 (io), E8 IO_L12P_0 (io), E9 IO_L08P_0/GCLK4 (io), E10 IO_L06N_0 (io), E11 IO_L04N_0 (io), F8 IO_L12N_0 (io), F9 IO_L08N_0/GCLK5 (io)
part B pins: C15 IO_L19N_1/LDC2 (io), C16 IO_L19P_1/LDC1 (io), D14 IO_L18N_1/LDC0 (io), D15 IO_L18P_1/HDC (io), D16 IO/VREF_1 (io), F12 IO_L16N_1 (io), F13 IO_L16P_1 (io), F14 IO_L15P_1 (io), F15 IO_L15N_1 (io), G13 IO_L14P_1 (io), G14 IO_L14N_1/A0 (io), G15 IO_L13P_1/A2 (io), G16 IO_L13N_1/A1 (io), H11 IO_L12N_1/A3/RHCLK7 (io), H12 IO_L12P_1/A4/RHCLK6 (io), H14 IO_L11N_1/A5/RHCLK5 (io), H15 IO_L11P_1/A6/RHCLK4/IRDY1 (io), J13 IO_L10N_1/A7/RHCLK3/TRDY1 (io), J14 IO_L10P_1/A8/RHCLK2 (io), J16 IO_L09N_1/A9/RHCLK1 (io), K12 IO_L07N_1/A11 (io), K13 IO_L07P_1/A12 (io), K14 IO_L08N_1/VREF_1 (io), K15 IO_L08P_1 (io), K16 IO_L09P_1/A10/RHCLK0 (io), L14 IO_L06P_1 (io), L15 IO_L06N_1 (io), M14 IO (io), M16 IO_L04N_1/VREF_1 (io), N16 IO_L04P_1 (io), P15 IO_L02N_1/A13 (io), P16 IO_L02P_1/A14 (io), R15 IO_L01N_1/A15 (io), R16 IO_L01P_1/A16 (io)
part C pins: L8 IO_L09N_2/D6/GCLK13 (io), L9 IO_L13P_2/M0 (io), M6 IO_L05P_2 (io), M8 IO_L09P_2/D7/GCLK12 (io), M9 IO_L13N_2/DIN/D0 (io), M10 IO_L15N_2 (io), N5 IO_L03N_2/MOSI/CSI_B (io), N6 IO_L05N_2 (io), N8 IO_L10P_2/D4/GCLK14 (io), N9 IO_L12N_2/D1/GCLK3 (io), N10 IO_L15P_2 (io), N12 IO_L18N_2/A20 (io), P3 IO_L01P_2/CSO_B (io), P4 IO_L01N_2/INIT_B (io), P5 IO_L03P_2/DOUT/BUSY (io), P6 IO_L06N_2 (io), P8 IO_L10N_2/D3/GCLK15 (io), P9 IO_L12P_2/D2/GCLK2 (io), P11 IO_L16N_2/A22 (io), P12 IO_L18P_2/A21 (io), P13 IO/VREF_2 (io), P14 IO_L20P_2/VS0/A17 (io), R4 IO/VREF_2 (io), R6 IO_L06P_2 (io), R11 IO_L16P_2/A23 (io), R13 IO_L19N_2/VS1/A18 (io), R14 IO_L20N_2/CCLK (io), T4 IO_L04P_2 (io), T5 IO_L04N_2 (io), T8 IO/D5 (io), T10 IO/M1 (io), T13 IO_L19P_2/VS2/A19 (io)
part D pins: B1 IO_L01P_3 (io), B2 IO_L01N_3 (io), C1 IO_L02P_3 (io), C2 IO_L02N_3/VREF_3 (io), D1 IO_L05P_3 (io), E1 IO_L05N_3 (io), E3 IO_L03P_3 (io), E4 IO_L03N_3 (io), G2 IO_L07N_3 (io), G3 IO_L07P_3 (io), G4 IO_L06N_3 (io), G5 IO_L06P_3 (io), H3 IO_L09P_3/LHCLK2 (io), H4 IO_L09N_3/LHCLK3/IRDY2 (io), H5 IO_L08P_3/LHCLK0 (io), H6 IO_L08N_3/LHCLK1 (io), J1 IO_L12P_3 (io), J2 IO_L10P_3/LHCLK4/TRDY2 (io), J3 IO_L10N_3/LHCLK5 (io), J4 IO_L11N_3/LHCLK7 (io), J5 IO_L11P_3/LHCLK6 (io), K1 IO_L12N_3 (io), K2 IO_L13P_3 (io), K3 IO_L13N_3 (io), K5 IO_L15P_3 (io), L5 IO_L15N_3 (io), M1 IO_L16P_3 (io), N1 IO_L16N_3 (io), N2 IO/VREF_3 (io), P1 IO_L18N_3 (io), P2 IO_L18P_3 (io), R1 IO_L19N_3 (io), R2 IO_L19P_3 (io)
part E pins: A3 IP (in), A8 IP_L10P_0/GCLK8 (in), B6 IP (in), B8 IP_L10N_0/GCLK9 (in), B10 IP (in), B16 IP (in), C9 IP_L07N_0 (in), C10 IP_L07P_0 (in), C12 IP_L02N_0 (in), C13 IP (in), D2 IP (in), D5 IP_L16P_0 (in), D12 IP_L02P_0 (in), E6 IP_L16N_0 (in), E14 IP (in), F2 IP (in), F5 IO (io), G1 IP/VREF_3 (in), G12 IP (in), H1 IP (in), H13 IP/VREF_1 (in), H16 IP (in), J6 IP (in), J11 IP (in), J12 IP (in), K4 IP (in), M3 IP (in), M7 IP (in), M11 IP_L17N_2 (in), M13 IP (in), N3 IP (in), N11 IP_L17P_2 (in), R3 IP_L02N_2 (in), R7 IP_L08P_2 (in), R9 IP_L11N_2/M2/GCLK1 (in), T2 IP (in), T3 IP_L02P_2 (in), T7 IP_L08N_2/VREF_2 (in), T9 IP_L11P_2/RDWR_B/GCLK0 (in), T12 IP (in), T14 IP (in)
part F pins: A2 TDI (in), A15 TCK (in), B15 TMS (in), C14 TDO (out), D3 PROG_B (in), T15 DONE (io)
part G pins: A6 VCCAUX (power), A11 VCCAUX (power), B5 VCCO_0 (power), B12 VCCO_0 (power), D4 VCCINT (power), D13 VCCINT (power), E2 VCCO_3 (power), E5 VCCINT (power), E12 VCCINT (power), E15 VCCO_1 (power), F1 VCCAUX (power), F7 VCCO_0 (power), F10 VCCO_0 (power), F16 VCCAUX (power), G6 VCCO_3 (power), G11 VCCO_1 (power), K6 VCCO_3 (power), K11 VCCO_1 (power), L1 VCCAUX (power), L7 VCCO_2 (power), L10 VCCO_2 (power), L16 VCCAUX (power), M2 VCCO_3 (power), M5 VCCINT (power), M12 VCCINT (power), M15 VCCO_1 (power), N4 VCCINT (power), N13 VCCINT (power), R5 VCCO_2 (power), R12 VCCO_2 (power), T6 VCCAUX (power), T11 VCCAUX (power)
part H pins: A1 GND (power), A16 GND (power), B9 GND (power), F6 GND (power), F11 GND (power), G7 GND (power), G8 GND (power), G9 GND (power), G10 GND (power), H2 GND (power), H7 GND (power), H8 GND (power), H9 GND (power), H10 GND (power), J7 GND (power), J8 GND (power), J9 GND (power), J10 GND (power), J15 GND (power), K7 GND (power), K8 GND (power), K9 GND (power), K10 GND (power), L6 GND (power), L11 GND (power), R8 GND (power), T1 GND (power), T16 GND (power)
part I pins: B7 NC, C7 NC, E13 NC, E16 NC, F3 NC, F4 NC, L2 NC, L3 NC, L4 NC, L12 NC, L13 NC, M4 NC, N7 NC, N14 NC, N15 NC, P7 NC, P10 NC, R10 NC
part A text: BANK 0
part B text: BANK 1
part C text: BANK 2
part D text: BANK 3

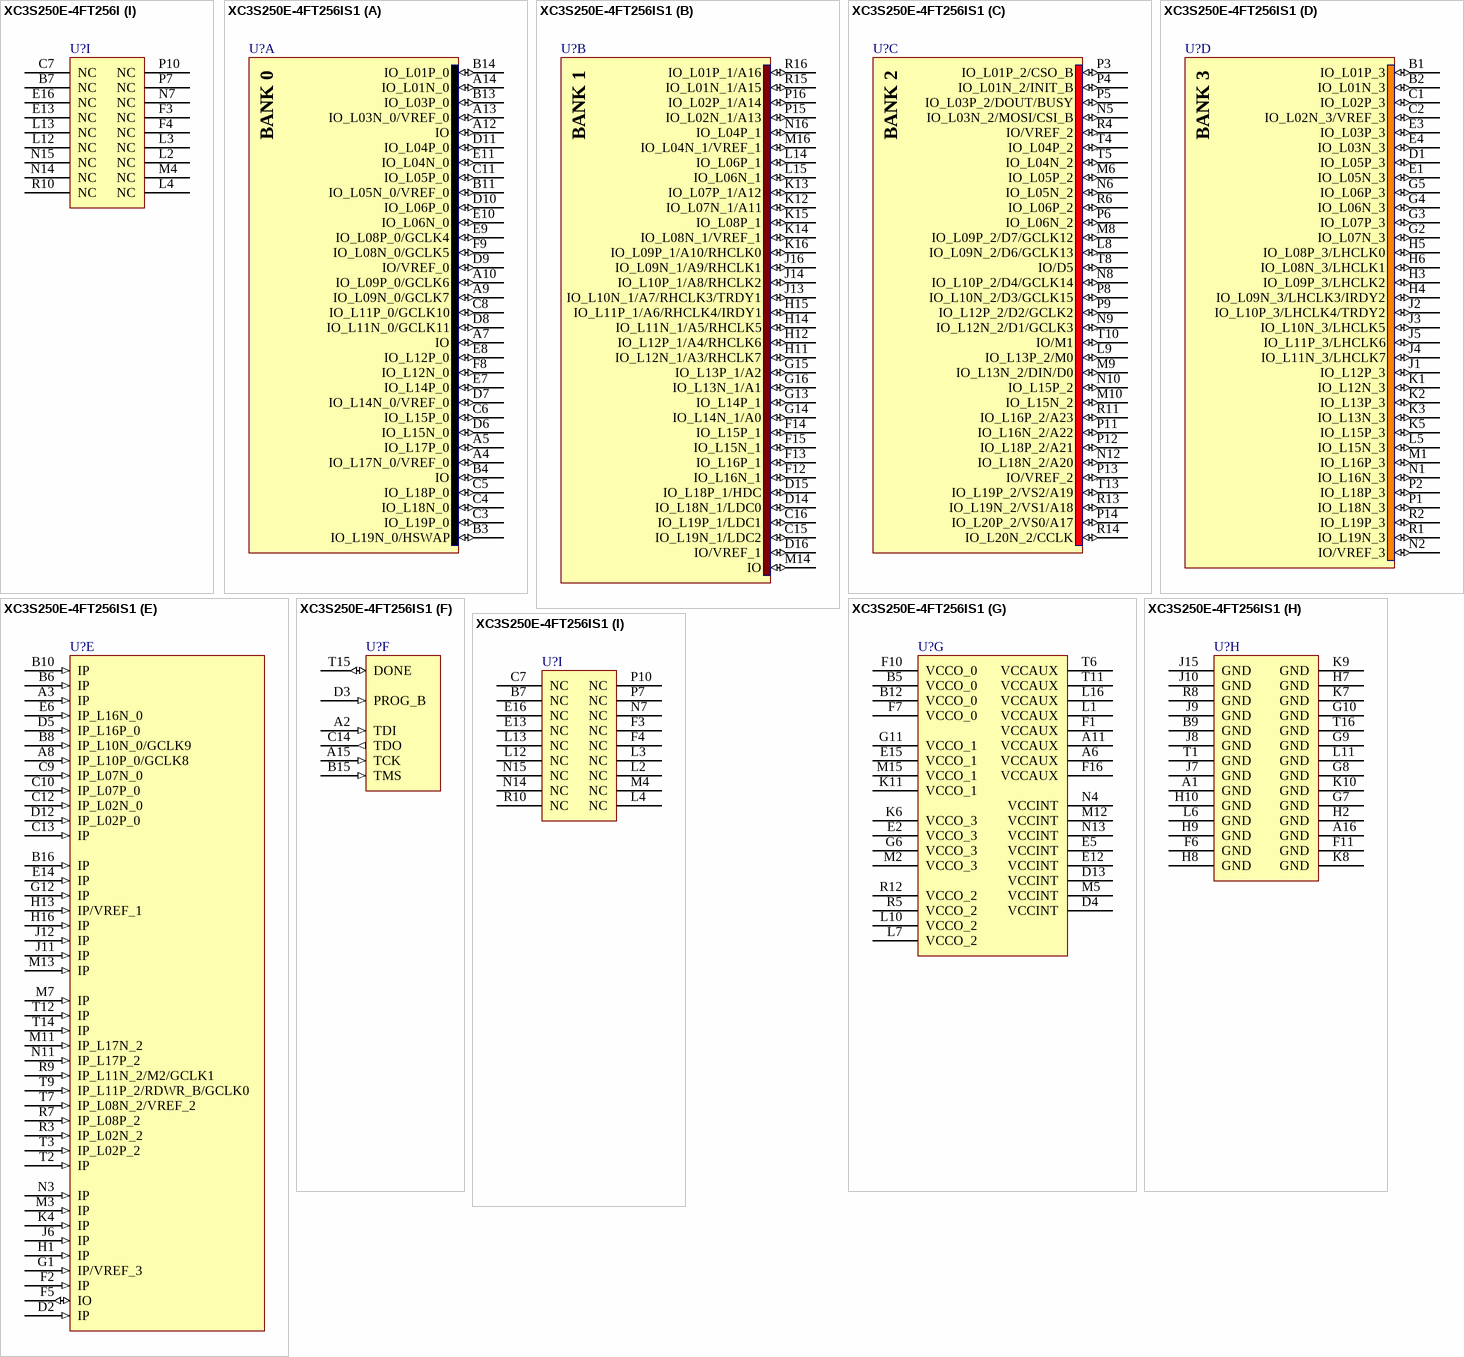
[diagram p23: symbols XC3S250E-4FT256I to XC3S250E-4FT256IS1]

## XC3S250E-4FT256I
designator U?
Spartan-3E 1.2V FPGA, 172 User I/Os, 256-Ball FTBGA, Standard Performance, Industrial Grade; Published: 6-Jun-2005; LatestRevisionDate: 13-Apr-2006; LatestRevisionNote: IPC-7351 Footprint Added.; DatasheetVersion: 18-Apr-2008; PackageVersion: ver1.3, Oct-2007; PackageReference: FT256; Publisher: Altium Limited; PackageDescription: 256-Ball Fine Pitch Thin Ball Grid Array 1.00 mm Pitch (FT256); Code_JEDEC: MS-034-AAF-1*; ComponentLink1Description: Manufacturer Link; ComponentLink1URL: http://www.xilinx.com/products/spartan3a/3a.htm; ComponentLink2Description: Datasheet; ComponentLink2URL: http://direct.xilinx.com/bvdocs/publications/ds312.pdf
footprint FT256 (BGA, 256-Leads, Body 17x17mm, Pitch 1mm)
3D model XC3S250E-FT256 (256-Ball Fine Pitch Thin Ball Grid Array 1.00 mm Pitch (FT256))
signal-integrity model XC3S250E_FT256 (Spartan-3E)
part A pins: A4 IO_L17N_0/VREF_0 (io), A5 IO_L17P_0 (io), A7 IO (io), A9 IO_L09N_0/GCLK7 (io), A10 IO_L09P_0/GCLK6 (io), A12 IO (io), A13 IO_L03N_0/VREF_0 (io), A14 IO_L01N_0 (io), B3 IO_L19N_0/HSWAP (io), B4 IO (io), B11 IO_L05N_0/VREF_0 (io), B13 IO_L03P_0 (io), B14 IO_L01P_0 (io), C3 IO_L19P_0 (io), C4 IO_L18N_0 (io), C5 IO_L18P_0 (io), C6 IO_L15P_0 (io), C8 IO_L11P_0/GCLK10 (io), C11 IO_L05P_0 (io), D6 IO_L15N_0 (io), D7 IO_L14N_0/VREF_0 (io), D8 IO_L11N_0/GCLK11 (io), D9 IO/VREF_0 (io), D10 IO_L06P_0 (io), D11 IO_L04P_0 (io), E7 IO_L14P_0 (io), E8 IO_L12P_0 (io), E9 IO_L08P_0/GCLK4 (io), E10 IO_L06N_0 (io), E11 IO_L04N_0 (io), F8 IO_L12N_0 (io), F9 IO_L08N_0/GCLK5 (io)
part B pins: C15 IO_L19N_1/LDC2 (io), C16 IO_L19P_1/LDC1 (io), D14 IO_L18N_1/LDC0 (io), D15 IO_L18P_1/HDC (io), D16 IO/VREF_1 (io), F12 IO_L16N_1 (io), F13 IO_L16P_1 (io), F14 IO_L15P_1 (io), F15 IO_L15N_1 (io), G13 IO_L14P_1 (io), G14 IO_L14N_1/A0 (io), G15 IO_L13P_1/A2 (io), G16 IO_L13N_1/A1 (io), H11 IO_L12N_1/A3/RHCLK7 (io), H12 IO_L12P_1/A4/RHCLK6 (io), H14 IO_L11N_1/A5/RHCLK5 (io), H15 IO_L11P_1/A6/RHCLK4/IRDY1 (io), J13 IO_L10N_1/A7/RHCLK3/TRDY1 (io), J14 IO_L10P_1/A8/RHCLK2 (io), J16 IO_L09N_1/A9/RHCLK1 (io), K12 IO_L07N_1/A11 (io), K13 IO_L07P_1/A12 (io), K14 IO_L08N_1/VREF_1 (io), K15 IO_L08P_1 (io), K16 IO_L09P_1/A10/RHCLK0 (io), L14 IO_L06P_1 (io), L15 IO_L06N_1 (io), M14 IO (io), M16 IO_L04N_1/VREF_1 (io), N16 IO_L04P_1 (io), P15 IO_L02N_1/A13 (io), P16 IO_L02P_1/A14 (io), R15 IO_L01N_1/A15 (io), R16 IO_L01P_1/A16 (io)
part C pins: L8 IO_L09N_2/D6/GCLK13 (io), L9 IO_L13P_2/M0 (io), M6 IO_L05P_2 (io), M8 IO_L09P_2/D7/GCLK12 (io), M9 IO_L13N_2/DIN/D0 (io), M10 IO_L15N_2 (io), N5 IO_L03N_2/MOSI/CSI_B (io), N6 IO_L05N_2 (io), N8 IO_L10P_2/D4/GCLK14 (io), N9 IO_L12N_2/D1/GCLK3 (io), N10 IO_L15P_2 (io), N12 IO_L18N_2/A20 (io), P3 IO_L01P_2/CSO_B (io), P4 IO_L01N_2/INIT_B (io), P5 IO_L03P_2/DOUT/BUSY (io), P6 IO_L06N_2 (io), P8 IO_L10N_2/D3/GCLK15 (io), P9 IO_L12P_2/D2/GCLK2 (io), P11 IO_L16N_2/A22 (io), P12 IO_L18P_2/A21 (io), P13 IO/VREF_2 (io), P14 IO_L20P_2/VS0/A17 (io), R4 IO/VREF_2 (io), R6 IO_L06P_2 (io), R11 IO_L16P_2/A23 (io), R13 IO_L19N_2/VS1/A18 (io), R14 IO_L20N_2/CCLK (io), T4 IO_L04P_2 (io), T5 IO_L04N_2 (io), T8 IO/D5 (io), T10 IO/M1 (io), T13 IO_L19P_2/VS2/A19 (io)
part D pins: B1 IO_L01P_3 (io), B2 IO_L01N_3 (io), C1 IO_L02P_3 (io), C2 IO_L02N_3/VREF_3 (io), D1 IO_L05P_3 (io), E1 IO_L05N_3 (io), E3 IO_L03P_3 (io), E4 IO_L03N_3 (io), G2 IO_L07N_3 (io), G3 IO_L07P_3 (io), G4 IO_L06N_3 (io), G5 IO_L06P_3 (io), H3 IO_L09P_3/LHCLK2 (io), H4 IO_L09N_3/LHCLK3/IRDY2 (io), H5 IO_L08P_3/LHCLK0 (io), H6 IO_L08N_3/LHCLK1 (io), J1 IO_L12P_3 (io), J2 IO_L10P_3/LHCLK4/TRDY2 (io), J3 IO_L10N_3/LHCLK5 (io), J4 IO_L11N_3/LHCLK7 (io), J5 IO_L11P_3/LHCLK6 (io), K1 IO_L12N_3 (io), K2 IO_L13P_3 (io), K3 IO_L13N_3 (io), K5 IO_L15P_3 (io), L5 IO_L15N_3 (io), M1 IO_L16P_3 (io), N1 IO_L16N_3 (io), N2 IO/VREF_3 (io), P1 IO_L18N_3 (io), P2 IO_L18P_3 (io), R1 IO_L19N_3 (io), R2 IO_L19P_3 (io)
part E pins: A3 IP (in), A8 IP_L10P_0/GCLK8 (in), B6 IP (in), B8 IP_L10N_0/GCLK9 (in), B10 IP (in), B16 IP (in), C9 IP_L07N_0 (in), C10 IP_L07P_0 (in), C12 IP_L02N_0 (in), C13 IP (in), D2 IP (in), D5 IP_L16P_0 (in), D12 IP_L02P_0 (in), E6 IP_L16N_0 (in), E14 IP (in), F2 IP (in), F5 IO (io), G1 IP/VREF_3 (in), G12 IP (in), H1 IP (in), H13 IP/VREF_1 (in), H16 IP (in), J6 IP (in), J11 IP (in), J12 IP (in), K4 IP (in), M3 IP (in), M7 IP (in), M11 IP_L17N_2 (in), M13 IP (in), N3 IP (in), N11 IP_L17P_2 (in), R3 IP_L02N_2 (in), R7 IP_L08P_2 (in), R9 IP_L11N_2/M2/GCLK1 (in), T2 IP (in), T3 IP_L02P_2 (in), T7 IP_L08N_2/VREF_2 (in), T9 IP_L11P_2/RDWR_B/GCLK0 (in), T12 IP (in), T14 IP (in)
part F pins: A2 TDI (in), A15 TCK (in), B15 TMS (in), C14 TDO (out), D3 PROG_B (in), T15 DONE (io)
part G pins: A6 VCCAUX (power), A11 VCCAUX (power), B5 VCCO_0 (power), B12 VCCO_0 (power), D4 VCCINT (power), D13 VCCINT (power), E2 VCCO_3 (power), E5 VCCINT (power), E12 VCCINT (power), E15 VCCO_1 (power), F1 VCCAUX (power), F7 VCCO_0 (power), F10 VCCO_0 (power), F16 VCCAUX (power), G6 VCCO_3 (power), G11 VCCO_1 (power), K6 VCCO_3 (power), K11 VCCO_1 (power), L1 VCCAUX (power), L7 VCCO_2 (power), L10 VCCO_2 (power), L16 VCCAUX (power), M2 VCCO_3 (power), M5 VCCINT (power), M12 VCCINT (power), M15 VCCO_1 (power), N4 VCCINT (power), N13 VCCINT (power), R5 VCCO_2 (power), R12 VCCO_2 (power), T6 VCCAUX (power), T11 VCCAUX (power)
part H pins: A1 GND (power), A16 GND (power), B9 GND (power), F6 GND (power), F11 GND (power), G7 GND (power), G8 GND (power), G9 GND (power), G10 GND (power), H2 GND (power), H7 GND (power), H8 GND (power), H9 GND (power), H10 GND (power), J7 GND (power), J8 GND (power), J9 GND (power), J10 GND (power), J15 GND (power), K7 GND (power), K8 GND (power), K9 GND (power), K10 GND (power), L6 GND (power), L11 GND (power), R8 GND (power), T1 GND (power), T16 GND (power)
part I pins: B7 NC, C7 NC, E13 NC, E16 NC, F3 NC, F4 NC, L2 NC, L3 NC, L4 NC, L12 NC, L13 NC, M4 NC, N7 NC, N14 NC, N15 NC, P7 NC, P10 NC, R10 NC
part A text: BANK 0
part B text: BANK 1
part C text: BANK 2
part D text: BANK 3

## XC3S250E-4FT256IS1
designator U?
Spartan-3E 1.2V FPGA, 172 User I/Os, 256-Ball FTBGA, Standard Performance, Industrial Grade, Stepping 1; Published: 14-May-2007; DatasheetVersion: 18-Apr-2008; PackageVersion: ver1.3, Oct-2007; PackageReference: FT256; Publisher: Altium Limited; PackageDescription: 256-Ball Fine Pitch Thin Ball Grid Array 1.00 mm Pitch (FT256); Code_JEDEC: MS-034-AAF-1*; ComponentLink1Description: Manufacturer Link; ComponentLink1URL: http://www.xilinx.com/products/spartan3a/3a.htm; ComponentLink2Description: Datasheet; ComponentLink2URL: http://direct.xilinx.com/bvdocs/publications/ds312.pdf
footprint FT256 (BGA, 256-Leads, Body 17x17mm, Pitch 1mm)
3D model XC3S250E-FT256 (256-Ball Fine Pitch Thin Ball Grid Array 1.00 mm Pitch (FT256))
signal-integrity model XC3S250E_FT256 (Spartan-3E)
part A pins: A4 IO_L17N_0/VREF_0 (io), A5 IO_L17P_0 (io), A7 IO (io), A9 IO_L09N_0/GCLK7 (io), A10 IO_L09P_0/GCLK6 (io), A12 IO (io), A13 IO_L03N_0/VREF_0 (io), A14 IO_L01N_0 (io), B3 IO_L19N_0/HSWAP (io), B4 IO (io), B11 IO_L05N_0/VREF_0 (io), B13 IO_L03P_0 (io), B14 IO_L01P_0 (io), C3 IO_L19P_0 (io), C4 IO_L18N_0 (io), C5 IO_L18P_0 (io), C6 IO_L15P_0 (io), C8 IO_L11P_0/GCLK10 (io), C11 IO_L05P_0 (io), D6 IO_L15N_0 (io), D7 IO_L14N_0/VREF_0 (io), D8 IO_L11N_0/GCLK11 (io), D9 IO/VREF_0 (io), D10 IO_L06P_0 (io), D11 IO_L04P_0 (io), E7 IO_L14P_0 (io), E8 IO_L12P_0 (io), E9 IO_L08P_0/GCLK4 (io), E10 IO_L06N_0 (io), E11 IO_L04N_0 (io), F8 IO_L12N_0 (io), F9 IO_L08N_0/GCLK5 (io)
part B pins: C15 IO_L19N_1/LDC2 (io), C16 IO_L19P_1/LDC1 (io), D14 IO_L18N_1/LDC0 (io), D15 IO_L18P_1/HDC (io), D16 IO/VREF_1 (io), F12 IO_L16N_1 (io), F13 IO_L16P_1 (io), F14 IO_L15P_1 (io), F15 IO_L15N_1 (io), G13 IO_L14P_1 (io), G14 IO_L14N_1/A0 (io), G15 IO_L13P_1/A2 (io), G16 IO_L13N_1/A1 (io), H11 IO_L12N_1/A3/RHCLK7 (io), H12 IO_L12P_1/A4/RHCLK6 (io), H14 IO_L11N_1/A5/RHCLK5 (io), H15 IO_L11P_1/A6/RHCLK4/IRDY1 (io), J13 IO_L10N_1/A7/RHCLK3/TRDY1 (io), J14 IO_L10P_1/A8/RHCLK2 (io), J16 IO_L09N_1/A9/RHCLK1 (io), K12 IO_L07N_1/A11 (io), K13 IO_L07P_1/A12 (io), K14 IO_L08N_1/VREF_1 (io), K15 IO_L08P_1 (io), K16 IO_L09P_1/A10/RHCLK0 (io), L14 IO_L06P_1 (io), L15 IO_L06N_1 (io), M14 IO (io), M16 IO_L04N_1/VREF_1 (io), N16 IO_L04P_1 (io), P15 IO_L02N_1/A13 (io), P16 IO_L02P_1/A14 (io), R15 IO_L01N_1/A15 (io), R16 IO_L01P_1/A16 (io)
part C pins: L8 IO_L09N_2/D6/GCLK13 (io), L9 IO_L13P_2/M0 (io), M6 IO_L05P_2 (io), M8 IO_L09P_2/D7/GCLK12 (io), M9 IO_L13N_2/DIN/D0 (io), M10 IO_L15N_2 (io), N5 IO_L03N_2/MOSI/CSI_B (io), N6 IO_L05N_2 (io), N8 IO_L10P_2/D4/GCLK14 (io), N9 IO_L12N_2/D1/GCLK3 (io), N10 IO_L15P_2 (io), N12 IO_L18N_2/A20 (io), P3 IO_L01P_2/CSO_B (io), P4 IO_L01N_2/INIT_B (io), P5 IO_L03P_2/DOUT/BUSY (io), P6 IO_L06N_2 (io), P8 IO_L10N_2/D3/GCLK15 (io), P9 IO_L12P_2/D2/GCLK2 (io), P11 IO_L16N_2/A22 (io), P12 IO_L18P_2/A21 (io), P13 IO/VREF_2 (io), P14 IO_L20P_2/VS0/A17 (io), R4 IO/VREF_2 (io), R6 IO_L06P_2 (io), R11 IO_L16P_2/A23 (io), R13 IO_L19N_2/VS1/A18 (io), R14 IO_L20N_2/CCLK (io), T4 IO_L04P_2 (io), T5 IO_L04N_2 (io), T8 IO/D5 (io), T10 IO/M1 (io), T13 IO_L19P_2/VS2/A19 (io)
part D pins: B1 IO_L01P_3 (io), B2 IO_L01N_3 (io), C1 IO_L02P_3 (io), C2 IO_L02N_3/VREF_3 (io), D1 IO_L05P_3 (io), E1 IO_L05N_3 (io), E3 IO_L03P_3 (io), E4 IO_L03N_3 (io), G2 IO_L07N_3 (io), G3 IO_L07P_3 (io), G4 IO_L06N_3 (io), G5 IO_L06P_3 (io), H3 IO_L09P_3/LHCLK2 (io), H4 IO_L09N_3/LHCLK3/IRDY2 (io), H5 IO_L08P_3/LHCLK0 (io), H6 IO_L08N_3/LHCLK1 (io), J1 IO_L12P_3 (io), J2 IO_L10P_3/LHCLK4/TRDY2 (io), J3 IO_L10N_3/LHCLK5 (io), J4 IO_L11N_3/LHCLK7 (io), J5 IO_L11P_3/LHCLK6 (io), K1 IO_L12N_3 (io), K2 IO_L13P_3 (io), K3 IO_L13N_3 (io), K5 IO_L15P_3 (io), L5 IO_L15N_3 (io), M1 IO_L16P_3 (io), N1 IO_L16N_3 (io), N2 IO/VREF_3 (io), P1 IO_L18N_3 (io), P2 IO_L18P_3 (io), R1 IO_L19N_3 (io), R2 IO_L19P_3 (io)
part E pins: A3 IP (in), A8 IP_L10P_0/GCLK8 (in), B6 IP (in), B8 IP_L10N_0/GCLK9 (in), B10 IP (in), B16 IP (in), C9 IP_L07N_0 (in), C10 IP_L07P_0 (in), C12 IP_L02N_0 (in), C13 IP (in), D2 IP (in), D5 IP_L16P_0 (in), D12 IP_L02P_0 (in), E6 IP_L16N_0 (in), E14 IP (in), F2 IP (in), F5 IO (io), G1 IP/VREF_3 (in), G12 IP (in), H1 IP (in), H13 IP/VREF_1 (in), H16 IP (in), J6 IP (in), J11 IP (in), J12 IP (in), K4 IP (in), M3 IP (in), M7 IP (in), M11 IP_L17N_2 (in), M13 IP (in), N3 IP (in), N11 IP_L17P_2 (in), R3 IP_L02N_2 (in), R7 IP_L08P_2 (in), R9 IP_L11N_2/M2/GCLK1 (in), T2 IP (in), T3 IP_L02P_2 (in), T7 IP_L08N_2/VREF_2 (in), T9 IP_L11P_2/RDWR_B/GCLK0 (in), T12 IP (in), T14 IP (in)
part F pins: A2 TDI (in), A15 TCK (in), B15 TMS (in), C14 TDO (out), D3 PROG_B (in), T15 DONE (io)
part G pins: A6 VCCAUX (power), A11 VCCAUX (power), B5 VCCO_0 (power), B12 VCCO_0 (power), D4 VCCINT (power), D13 VCCINT (power), E2 VCCO_3 (power), E5 VCCINT (power), E12 VCCINT (power), E15 VCCO_1 (power), F1 VCCAUX (power), F7 VCCO_0 (power), F10 VCCO_0 (power), F16 VCCAUX (power), G6 VCCO_3 (power), G11 VCCO_1 (power), K6 VCCO_3 (power), K11 VCCO_1 (power), L1 VCCAUX (power), L7 VCCO_2 (power), L10 VCCO_2 (power), L16 VCCAUX (power), M2 VCCO_3 (power), M5 VCCINT (power), M12 VCCINT (power), M15 VCCO_1 (power), N4 VCCINT (power), N13 VCCINT (power), R5 VCCO_2 (power), R12 VCCO_2 (power), T6 VCCAUX (power), T11 VCCAUX (power)
part H pins: A1 GND (power), A16 GND (power), B9 GND (power), F6 GND (power), F11 GND (power), G7 GND (power), G8 GND (power), G9 GND (power), G10 GND (power), H2 GND (power), H7 GND (power), H8 GND (power), H9 GND (power), H10 GND (power), J7 GND (power), J8 GND (power), J9 GND (power), J10 GND (power), J15 GND (power), K7 GND (power), K8 GND (power), K9 GND (power), K10 GND (power), L6 GND (power), L11 GND (power), R8 GND (power), T1 GND (power), T16 GND (power)
part I pins: B7 NC, C7 NC, E13 NC, E16 NC, F3 NC, F4 NC, L2 NC, L3 NC, L4 NC, L12 NC, L13 NC, M4 NC, N7 NC, N14 NC, N15 NC, P7 NC, P10 NC, R10 NC
part A text: BANK 0
part B text: BANK 1
part C text: BANK 2
part D text: BANK 3

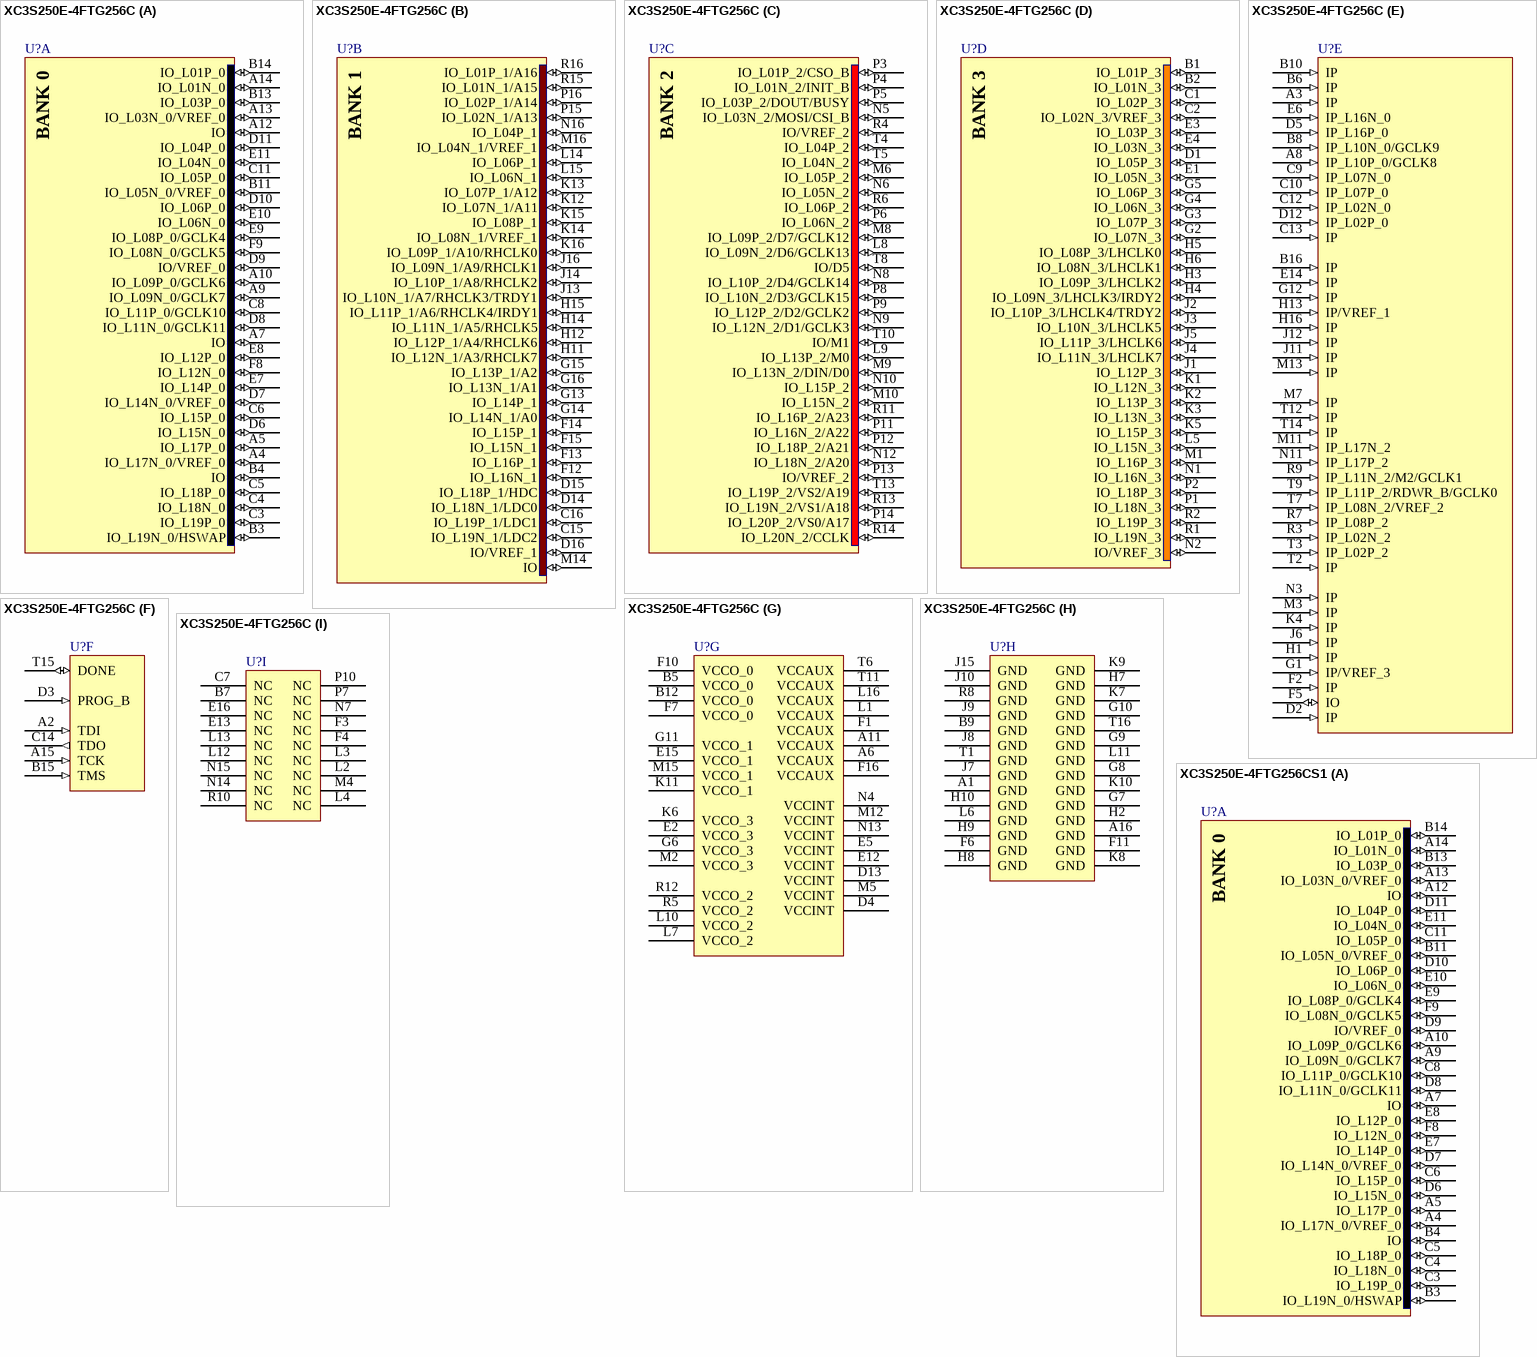
[diagram p24: symbols XC3S250E-4FTG256C to XC3S250E-4FTG256CS1]

## XC3S250E-4FTG256C
designator U?
Spartan-3E 1.2V FPGA, 172 User I/Os, 256-Ball Pb-Free FTBGA, Standard Performance, Commercial Grade; Published: 6-Jun-2005; LatestRevisionDate: 13-Apr-2006; LatestRevisionNote: IPC-7351 Footprint Added.; DatasheetVersion: 18-Apr-2008; PackageVersion: ver1.3, Oct-2007; PackageReference: FTG256; Publisher: Altium Limited; PackageDescription: 256-Ball Fine Pitch Thin Ball Grid Array 1.00 mm Pitch (FTG256) - Pb-Free; Code_JEDEC: MS-034-AAF-1*; ComponentLink1Description: Manufacturer Link; ComponentLink1URL: http://www.xilinx.com/products/spartan3a/3a.htm; ComponentLink2Description: Datasheet; ComponentLink2URL: http://direct.xilinx.com/bvdocs/publications/ds312.pdf
footprint FTG256 (BGA, 256-Leads, Body 17x17mm, Pitch 1mm)
3D model XC3S250E-FT256 (256-Ball Fine Pitch Thin Ball Grid Array 1.00 mm Pitch (FTG256) - Pb-Free)
signal-integrity model XC3S250E_FTG256 (Spartan-3E)
part A pins: A4 IO_L17N_0/VREF_0 (io), A5 IO_L17P_0 (io), A7 IO (io), A9 IO_L09N_0/GCLK7 (io), A10 IO_L09P_0/GCLK6 (io), A12 IO (io), A13 IO_L03N_0/VREF_0 (io), A14 IO_L01N_0 (io), B3 IO_L19N_0/HSWAP (io), B4 IO (io), B11 IO_L05N_0/VREF_0 (io), B13 IO_L03P_0 (io), B14 IO_L01P_0 (io), C3 IO_L19P_0 (io), C4 IO_L18N_0 (io), C5 IO_L18P_0 (io), C6 IO_L15P_0 (io), C8 IO_L11P_0/GCLK10 (io), C11 IO_L05P_0 (io), D6 IO_L15N_0 (io), D7 IO_L14N_0/VREF_0 (io), D8 IO_L11N_0/GCLK11 (io), D9 IO/VREF_0 (io), D10 IO_L06P_0 (io), D11 IO_L04P_0 (io), E7 IO_L14P_0 (io), E8 IO_L12P_0 (io), E9 IO_L08P_0/GCLK4 (io), E10 IO_L06N_0 (io), E11 IO_L04N_0 (io), F8 IO_L12N_0 (io), F9 IO_L08N_0/GCLK5 (io)
part B pins: C15 IO_L19N_1/LDC2 (io), C16 IO_L19P_1/LDC1 (io), D14 IO_L18N_1/LDC0 (io), D15 IO_L18P_1/HDC (io), D16 IO/VREF_1 (io), F12 IO_L16N_1 (io), F13 IO_L16P_1 (io), F14 IO_L15P_1 (io), F15 IO_L15N_1 (io), G13 IO_L14P_1 (io), G14 IO_L14N_1/A0 (io), G15 IO_L13P_1/A2 (io), G16 IO_L13N_1/A1 (io), H11 IO_L12N_1/A3/RHCLK7 (io), H12 IO_L12P_1/A4/RHCLK6 (io), H14 IO_L11N_1/A5/RHCLK5 (io), H15 IO_L11P_1/A6/RHCLK4/IRDY1 (io), J13 IO_L10N_1/A7/RHCLK3/TRDY1 (io), J14 IO_L10P_1/A8/RHCLK2 (io), J16 IO_L09N_1/A9/RHCLK1 (io), K12 IO_L07N_1/A11 (io), K13 IO_L07P_1/A12 (io), K14 IO_L08N_1/VREF_1 (io), K15 IO_L08P_1 (io), K16 IO_L09P_1/A10/RHCLK0 (io), L14 IO_L06P_1 (io), L15 IO_L06N_1 (io), M14 IO (io), M16 IO_L04N_1/VREF_1 (io), N16 IO_L04P_1 (io), P15 IO_L02N_1/A13 (io), P16 IO_L02P_1/A14 (io), R15 IO_L01N_1/A15 (io), R16 IO_L01P_1/A16 (io)
part C pins: L8 IO_L09N_2/D6/GCLK13 (io), L9 IO_L13P_2/M0 (io), M6 IO_L05P_2 (io), M8 IO_L09P_2/D7/GCLK12 (io), M9 IO_L13N_2/DIN/D0 (io), M10 IO_L15N_2 (io), N5 IO_L03N_2/MOSI/CSI_B (io), N6 IO_L05N_2 (io), N8 IO_L10P_2/D4/GCLK14 (io), N9 IO_L12N_2/D1/GCLK3 (io), N10 IO_L15P_2 (io), N12 IO_L18N_2/A20 (io), P3 IO_L01P_2/CSO_B (io), P4 IO_L01N_2/INIT_B (io), P5 IO_L03P_2/DOUT/BUSY (io), P6 IO_L06N_2 (io), P8 IO_L10N_2/D3/GCLK15 (io), P9 IO_L12P_2/D2/GCLK2 (io), P11 IO_L16N_2/A22 (io), P12 IO_L18P_2/A21 (io), P13 IO/VREF_2 (io), P14 IO_L20P_2/VS0/A17 (io), R4 IO/VREF_2 (io), R6 IO_L06P_2 (io), R11 IO_L16P_2/A23 (io), R13 IO_L19N_2/VS1/A18 (io), R14 IO_L20N_2/CCLK (io), T4 IO_L04P_2 (io), T5 IO_L04N_2 (io), T8 IO/D5 (io), T10 IO/M1 (io), T13 IO_L19P_2/VS2/A19 (io)
part D pins: B1 IO_L01P_3 (io), B2 IO_L01N_3 (io), C1 IO_L02P_3 (io), C2 IO_L02N_3/VREF_3 (io), D1 IO_L05P_3 (io), E1 IO_L05N_3 (io), E3 IO_L03P_3 (io), E4 IO_L03N_3 (io), G2 IO_L07N_3 (io), G3 IO_L07P_3 (io), G4 IO_L06N_3 (io), G5 IO_L06P_3 (io), H3 IO_L09P_3/LHCLK2 (io), H4 IO_L09N_3/LHCLK3/IRDY2 (io), H5 IO_L08P_3/LHCLK0 (io), H6 IO_L08N_3/LHCLK1 (io), J1 IO_L12P_3 (io), J2 IO_L10P_3/LHCLK4/TRDY2 (io), J3 IO_L10N_3/LHCLK5 (io), J4 IO_L11N_3/LHCLK7 (io), J5 IO_L11P_3/LHCLK6 (io), K1 IO_L12N_3 (io), K2 IO_L13P_3 (io), K3 IO_L13N_3 (io), K5 IO_L15P_3 (io), L5 IO_L15N_3 (io), M1 IO_L16P_3 (io), N1 IO_L16N_3 (io), N2 IO/VREF_3 (io), P1 IO_L18N_3 (io), P2 IO_L18P_3 (io), R1 IO_L19N_3 (io), R2 IO_L19P_3 (io)
part E pins: A3 IP (in), A8 IP_L10P_0/GCLK8 (in), B6 IP (in), B8 IP_L10N_0/GCLK9 (in), B10 IP (in), B16 IP (in), C9 IP_L07N_0 (in), C10 IP_L07P_0 (in), C12 IP_L02N_0 (in), C13 IP (in), D2 IP (in), D5 IP_L16P_0 (in), D12 IP_L02P_0 (in), E6 IP_L16N_0 (in), E14 IP (in), F2 IP (in), F5 IO (io), G1 IP/VREF_3 (in), G12 IP (in), H1 IP (in), H13 IP/VREF_1 (in), H16 IP (in), J6 IP (in), J11 IP (in), J12 IP (in), K4 IP (in), M3 IP (in), M7 IP (in), M11 IP_L17N_2 (in), M13 IP (in), N3 IP (in), N11 IP_L17P_2 (in), R3 IP_L02N_2 (in), R7 IP_L08P_2 (in), R9 IP_L11N_2/M2/GCLK1 (in), T2 IP (in), T3 IP_L02P_2 (in), T7 IP_L08N_2/VREF_2 (in), T9 IP_L11P_2/RDWR_B/GCLK0 (in), T12 IP (in), T14 IP (in)
part F pins: A2 TDI (in), A15 TCK (in), B15 TMS (in), C14 TDO (out), D3 PROG_B (in), T15 DONE (io)
part G pins: A6 VCCAUX (power), A11 VCCAUX (power), B5 VCCO_0 (power), B12 VCCO_0 (power), D4 VCCINT (power), D13 VCCINT (power), E2 VCCO_3 (power), E5 VCCINT (power), E12 VCCINT (power), E15 VCCO_1 (power), F1 VCCAUX (power), F7 VCCO_0 (power), F10 VCCO_0 (power), F16 VCCAUX (power), G6 VCCO_3 (power), G11 VCCO_1 (power), K6 VCCO_3 (power), K11 VCCO_1 (power), L1 VCCAUX (power), L7 VCCO_2 (power), L10 VCCO_2 (power), L16 VCCAUX (power), M2 VCCO_3 (power), M5 VCCINT (power), M12 VCCINT (power), M15 VCCO_1 (power), N4 VCCINT (power), N13 VCCINT (power), R5 VCCO_2 (power), R12 VCCO_2 (power), T6 VCCAUX (power), T11 VCCAUX (power)
part H pins: A1 GND (power), A16 GND (power), B9 GND (power), F6 GND (power), F11 GND (power), G7 GND (power), G8 GND (power), G9 GND (power), G10 GND (power), H2 GND (power), H7 GND (power), H8 GND (power), H9 GND (power), H10 GND (power), J7 GND (power), J8 GND (power), J9 GND (power), J10 GND (power), J15 GND (power), K7 GND (power), K8 GND (power), K9 GND (power), K10 GND (power), L6 GND (power), L11 GND (power), R8 GND (power), T1 GND (power), T16 GND (power)
part I pins: B7 NC, C7 NC, E13 NC, E16 NC, F3 NC, F4 NC, L2 NC, L3 NC, L4 NC, L12 NC, L13 NC, M4 NC, N7 NC, N14 NC, N15 NC, P7 NC, P10 NC, R10 NC
part A text: BANK 0
part B text: BANK 1
part C text: BANK 2
part D text: BANK 3

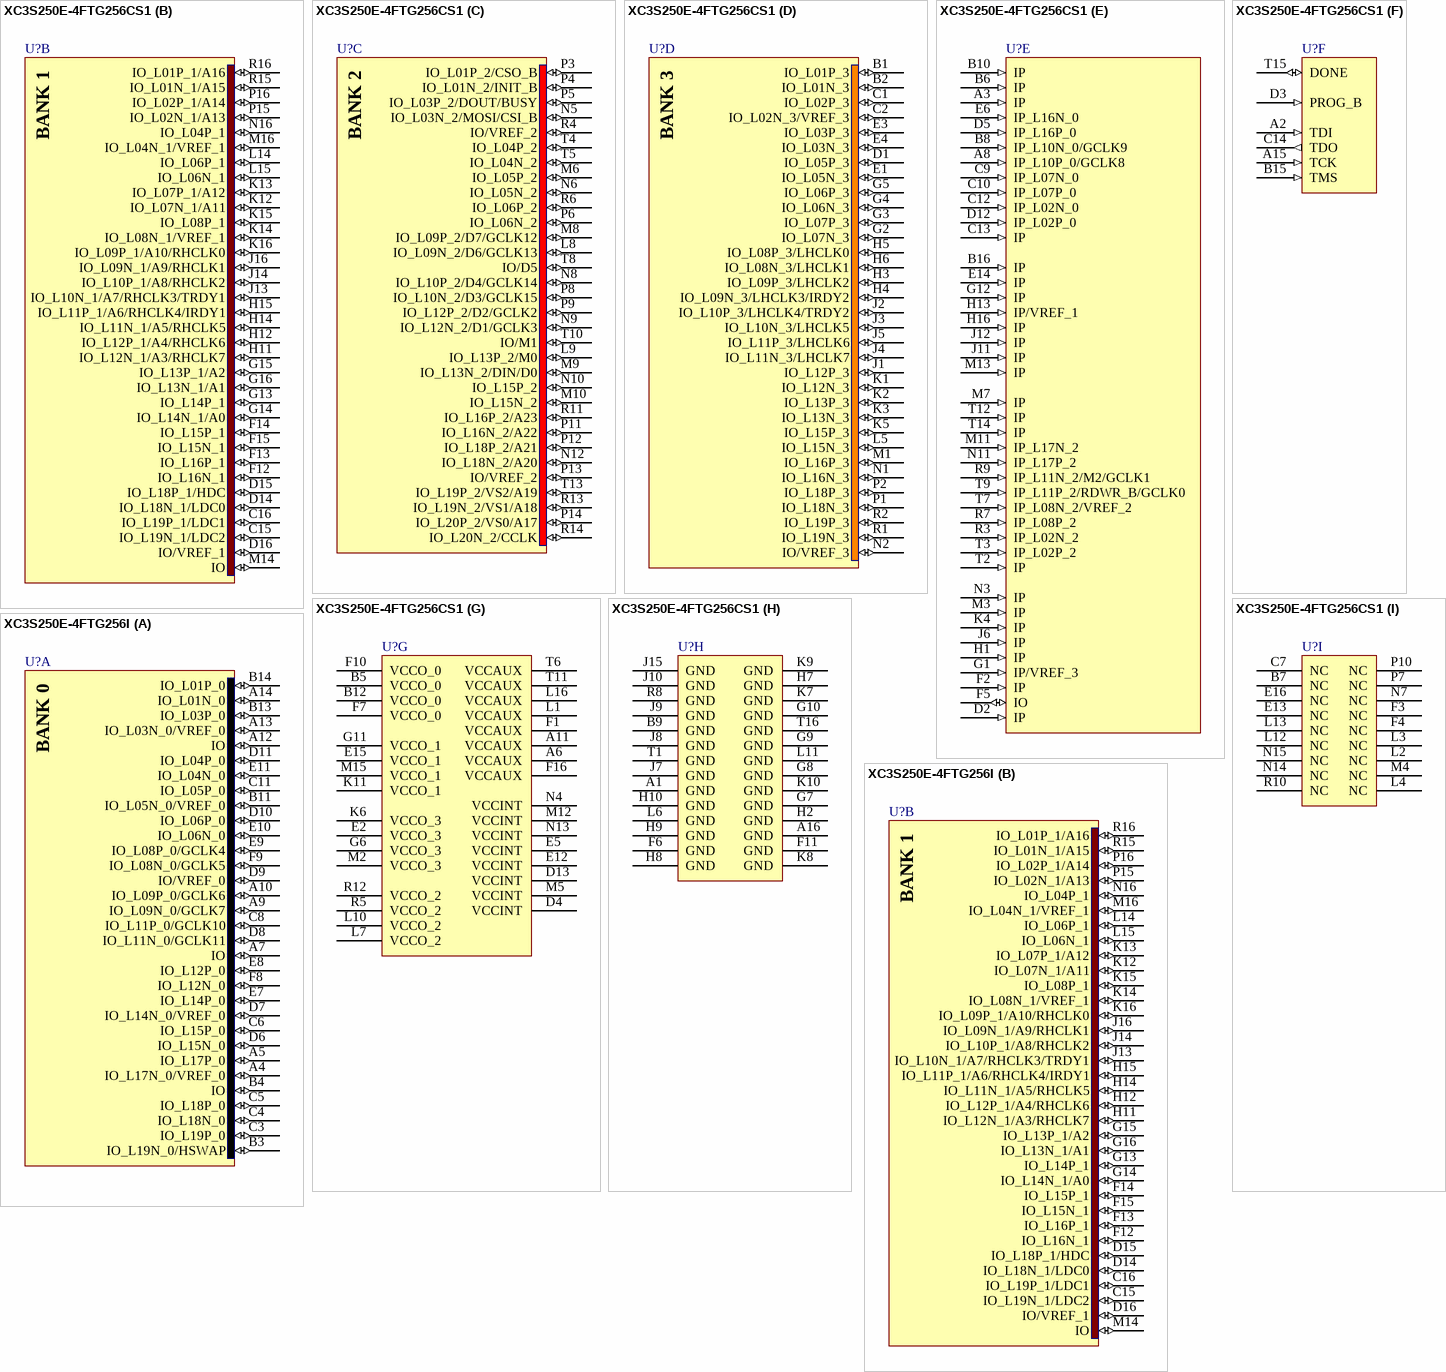
[diagram p25: symbols XC3S250E-4FTG256CS1 to XC3S250E-4FTG256I]